# Altium integrated library Altera Arria GX.IntLib: 44 symbols (part 13 of 23)
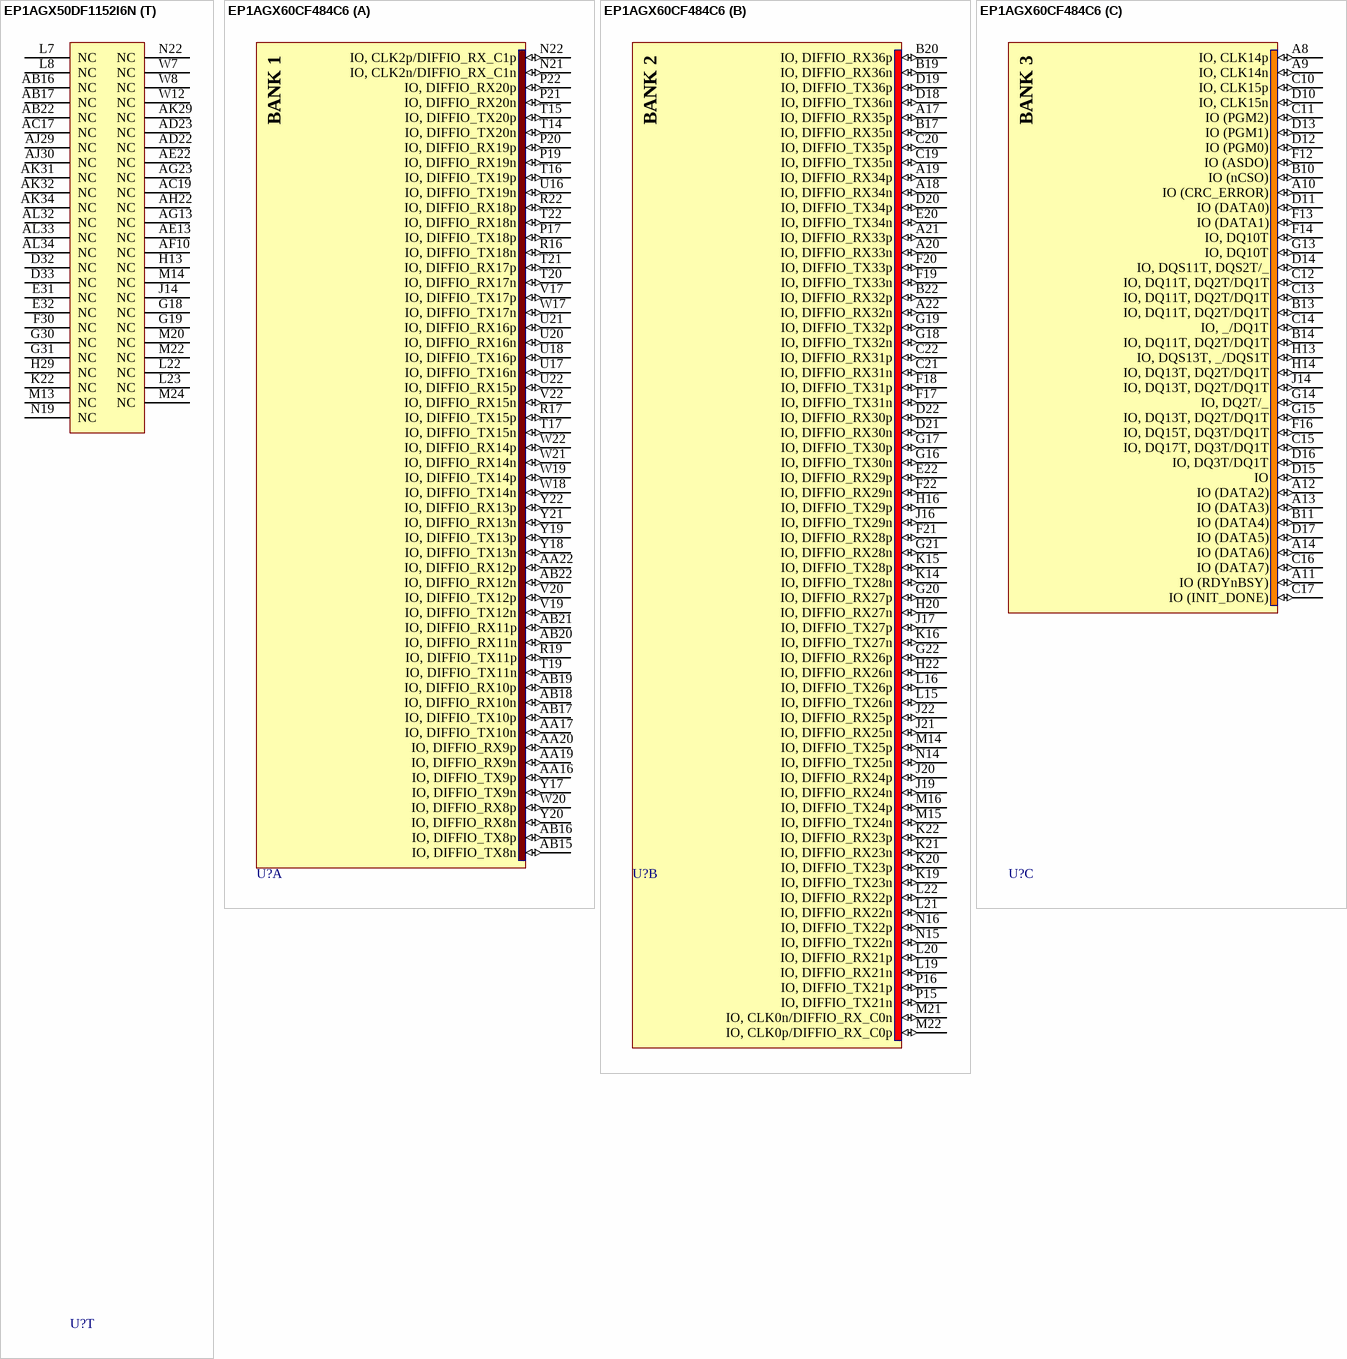
[diagram p152: symbols EP1AGX50DF1152I6N to EP1AGX60CF484C6]

## EP1AGX50DF1152I6N
designator U?
Arria GX Family FPGA, 563 I/O Pins, 8 PLLs, 1152-Pin FPGA, Speed Grade 6, Industrial Grade, Pb-Free; Note: DQS signal pins named according to DQ bus modes.  "/" separates each mode. ie. Mode x8/x9, x16/x18 and x36.; DatasheetVersion: ver1.3, May-2008; PackageVersion: ver15.1, May-2008; PackageReference: FBGA1152; PackageDescription: 1152-Ball FineLine Ball Grid Array (FBGA1152) - Flip Chip; Code_JEDEC: MS-034-AAR-1; ComponentLink1Description: Manufacturer URL; ComponentLink1URL: http://www.altera.com/; ComponentLink2Description: Datasheet; ComponentLink2URL: http://www.altera.com/literature/hb/agx/arriagx_handbook.pdf; ComponentLink3Description: Package Specification; ComponentLink3URL: http://www.altera.com/literature/ds/dspkg.pdf
footprint FBGA1152 (BGA, 1152-Leads, Body 35x35mm, Pitch 1mm)
part A pins: AA23 IO, DIFFIO_TX15p (io), AA25 IO, DIFFIO_TX14n (io), AA26 IO, DIFFIO_TX14p (io), AA28 IO, DIFFIO_TX16n (io), AA29 IO, DIFFIO_TX16p (io), AA31 IO, DIFFIO_RX16n (io), AA32 IO, DIFFIO_RX16p (io), AA34 IO, DIFFIO_RX13p (io), AB23 IO, DIFFIO_TX15n (io), AB24 IO, DIFFIO_TX12p (io), AB25 IO, DIFFIO_TX11n (io), AB26 IO, DIFFIO_TX11p (io), AB27 IO, DIFFIO_TX10n (io), AB28 IO, DIFFIO_TX13n (io), AB29 IO, DIFFIO_TX13p (io), AB30 IO, DIFFIO_RX15n (io), AB31 IO, DIFFIO_RX15p (io), AB32 IO, DIFFIO_RX14n (io), AB33 IO, DIFFIO_RX14p (io), AB34 IO, DIFFIO_RX13n (io), AC24 IO, DIFFIO_TX12n (io), AC27 IO, DIFFIO_TX10p (io), AC28 IO, DIFFIO_TX8n (io), AC29 IO, DIFFIO_TX8p (io), AC31 IO, DIFFIO_RX12n (io), AC32 IO, DIFFIO_RX12p (io), AC33 IO, DIFFIO_RX11n (io), AC34 IO, DIFFIO_RX11p (io), AD25 IO, DIFFIO_TX9n (io), AD26 IO, DIFFIO_TX9p (io), AD28 IO, DIFFIO_TX7n (io), AD29 IO, DIFFIO_TX7p (io), AD31 IO, DIFFIO_RX10n (io), AD32 IO, DIFFIO_RX10p (io), AD34 IO, DIFFIO_RX8p (io), AE27 IO, DIFFIO_TX5n (io), AE28 IO, DIFFIO_TX5p (io), AE29 IO, DIFFIO_TX6n (io), AE30 IO, DIFFIO_TX6p (io), AE32 IO, DIFFIO_RX9n (io), AE33 IO, DIFFIO_RX9p (io), AE34 IO, DIFFIO_RX8n (io), AF27 IO, DIFFIO_TX3n (io), AF28 IO, DIFFIO_TX3p (io), AF29 IO, DIFFIO_TX4n (io), AF30 IO, DIFFIO_TX4p (io), AF31 IO, DIFFIO_RX7n (io), AF32 IO, DIFFIO_RX7p (io), AF33 IO, DIFFIO_RX6n (io), AF34 IO, DIFFIO_RX6p (io), AG28 IO, DIFFIO_TX2n (io), AG29 IO, DIFFIO_TX2p (io), AG31 IO, DIFFIO_RX5n (io), AG32 IO, DIFFIO_RX5p (io), AG34 IO, DIFFIO_RX4p (io), AH28 IO, DIFFIO_TX0n (io), AH29 IO, DIFFIO_TX0p (io), AH30 IO, DIFFIO_TX1n (io), AH31 IO, DIFFIO_TX1p (io), AH32 IO, DIFFIO_RX3n (io), AH33 IO, DIFFIO_RX3p (io), AH34 IO, DIFFIO_RX4n (io), AJ31 IO, DIFFIO_RX1n (io), AJ32 IO, DIFFIO_RX1p (io), AJ33 IO, DIFFIO_RX2n (io), AJ34 IO, DIFFIO_RX2p (io), V23 IO, DIFFIO_TX20p (io), V34 IO, CLK2n/DIFFIO_RX_C1n (io), W23 IO, DIFFIO_TX20n (io), W28 IO, DIFFIO_TX18p (io), W30 IO, DIFFIO_RX20n (io), W31 IO, DIFFIO_RX20p (io), W32 IO, DIFFIO_RX19n (io), W33 IO, DIFFIO_RX19p (io), W34 IO, CLK2p/DIFFIO_RX_C1p (io), Y23 IO, DIFFIO_TX19n (io), Y24 IO, DIFFIO_TX19p (io), Y27 IO, DIFFIO_TX17n (io), Y28 IO, DIFFIO_TX17p (io), Y29 IO, DIFFIO_TX18n (io), Y31 IO, DIFFIO_RX18n (io), Y32 IO, DIFFIO_RX18p (io), Y33 IO, DIFFIO_RX17n (io), Y34 IO, DIFFIO_RX17p (io)
part B pins: D34 IO, DIFFIO_RX40n (io), E34 IO, DIFFIO_RX40p (io), F31 IO, DIFFIO_RX39n (io), F32 IO, DIFFIO_RX39p (io), F33 IO, DIFFIO_RX38n (io), F34 IO, DIFFIO_RX38p (io), G32 IO, DIFFIO_RX37n (io), G33 IO, DIFFIO_RX37p (io), G34 IO, DIFFIO_RX35p (io), H31 IO, DIFFIO_RX36n (io), H32 IO, DIFFIO_RX36p (io), H34 IO, DIFFIO_RX35n (io), J28 IO, DIFFIO_TX41p (io), J29 IO, DIFFIO_TX40n (io), J30 IO, DIFFIO_TX40p (io), J31 IO, DIFFIO_RX34n (io), J32 IO, DIFFIO_RX34p (io), J33 IO, DIFFIO_RX33n (io), J34 IO, DIFFIO_RX33p (io), K27 IO, DIFFIO_TX41n (io), K28 IO, DIFFIO_TX36p (io), K29 IO, DIFFIO_TX39n (io), K30 IO, DIFFIO_TX39p (io), K32 IO, DIFFIO_RX32n (io), K33 IO, DIFFIO_RX32p (io), K34 IO, DIFFIO_RX30n (io), L25 IO, DIFFIO_TX38n (io), L26 IO, DIFFIO_TX38p (io), L28 IO, DIFFIO_TX36n (io), L29 IO, DIFFIO_TX35p (io), L31 IO, DIFFIO_RX31n (io), L32 IO, DIFFIO_RX31p (io), L34 IO, DIFFIO_RX30p (io), M25 IO, DIFFIO_TX37n (io), M26 IO, DIFFIO_TX37p (io), M27 IO, DIFFIO_TX34n (io), M28 IO, DIFFIO_TX34p (io), M29 IO, DIFFIO_TX35n (io), M31 IO, DIFFIO_RX29n (io), M32 IO, DIFFIO_RX29p (io), M33 IO, DIFFIO_RX28n (io), M34 IO, DIFFIO_RX28p (io), N23 IO, DIFFIO_TX31p (io), N24 IO, DIFFIO_TX32n (io), N25 IO, DIFFIO_TX32p (io), N26 IO, DIFFIO_TX33n (io), N27 IO, DIFFIO_TX33p (io), N28 IO, DIFFIO_TX30n (io), N29 IO, DIFFIO_TX30p (io), N30 IO, DIFFIO_RX27n (io), N31 IO, DIFFIO_RX27p (io), N32 IO, DIFFIO_RX26n (io), N33 IO, DIFFIO_RX26p (io), N34 IO, DIFFIO_RX24p (io), P23 IO, DIFFIO_TX31n (io), P28 IO, DIFFIO_TX29n (io), P29 IO, DIFFIO_TX29p (io), P31 IO, DIFFIO_RX25n (io), P32 IO, DIFFIO_RX25p (io), P34 IO, DIFFIO_RX24n (io), R23 IO, DIFFIO_TX27p (io), R28 IO, DIFFIO_TX28n (io), R29 IO, DIFFIO_TX28p (io), R31 IO, DIFFIO_RX23n (io), R32 IO, DIFFIO_RX23p (io), R33 IO, DIFFIO_RX22n (io), R34 IO, DIFFIO_RX22p (io), T23 IO, DIFFIO_TX27n (io), T28 IO, DIFFIO_TX26n (io), T29 IO, DIFFIO_TX26p (io), T31 IO, DIFFIO_RX21n (io), T32 IO, DIFFIO_RX21p (io), T34 IO, CLK0n/DIFFIO_RX_C0n (io), U23 IO, DIFFIO_TX25n (io), U24 IO, DIFFIO_TX25p (io), U27 IO, DIFFIO_TX21p (io), U28 IO, DIFFIO_TX23n (io), U29 IO, DIFFIO_TX23p (io), U30 IO, DIFFIO_TX24n (io), U31 IO, DIFFIO_TX24p (io), U34 IO, CLK0p/DIFFIO_RX_C0p (io), V28 IO, DIFFIO_TX21n (io), V29 IO, DIFFIO_TX22n (io), W29 IO, DIFFIO_TX22p (io)
part C pins: A21 IO, DQ10T, DQ5T/DQ2T/DQ1T (io), A22 IO, DQ11T, DQ5T/DQ2T/DQ1T (io), A23 IO, DQ12T, DQ6T/DQ2T/DQ1T (io), A24 IO, DQ13T, DQ6T/DQ2T/DQ1T (io), A25 IO, DQ13T, DQ6T/DQ2T/DQ1T (io), A26 IO, DQ14T, DQ7T/DQ3T/DQ1T (io), A27 IO, DQ15T, DQ7T/DQ3T/DQ1T (io), A28 IO, DQ15T, DQ7T/DQ3T/DQ1T (io), A29 IO, DQ16T, DQ8T/DQ3T/DQ1T (io), A30 IO, DQ17T, DQ8T/DQ3T/DQ1T (io), A31 IO, DQS17T (io), A32 IO, DQ17T, DQ8T/DQ3T/DQ1T (io), B19 IO, CLK14p (io), B22 IO, DQ11T, DQ5T/DQ2T/DQ1T (io), B23 IO, DQ12T, DQ6T/DQ2T/DQ1T (io), B25 IO, DQS13T, _/_/DQS1T (io), B26 IO, DQ14T, DQ7T/DQ3T/DQ1T (io), B28 IO, DQS15T, _/DQS3T/_ (io), B29 IO, DQ16T, DQ8T/DQ3T/DQ1T (io), B31 IO, DQ8T/DQ3T/DQ1T (io), B32 IO, DQ17T, DQ8T/DQ3T/_ (io), C19 IO, CLK14n (io), C21 IO, DQ10T, DQ5T/DQ2T/DQ1T (io), C22 IO, DQS11T, _/DQS2T/_ (io), C23 IO, DQS12T, DQS6T/_/_ (io), C24 IO, _/DQ2T/DQ1T (io), C25 IO, DQ6T/DQ2T/_ (io), C26 IO, DQS14T, DQS7T/_/_ (io), C27 IO, DQ15T, DQ7T/DQ3T/DQ1T (io), C28 IO, DQ7T/_/DQ1T (io), C29 IO, DQS16T, DQS8T/_/_ (io), C30 IO, DQ17T, DQ8T/_/_ (io), D19 IO, CLK15p (io), D21 IO, _/DQ2T/DQ1T (io), D22 IO, DQS10T, DQS5T/_/_ (io), D23 IO, DQ5T/_/DQ1T (io), D24 IO, DQ12T, DQ6T/DQ2T/DQ1T (io), D25 IO, DQ13T, DQ6T/_/_ (io), D26 IO, _/DQ3T/DQ1T (io), D27 IO, DQ15T, DQ7T/DQ3T/DQ1T (io), D28 IO, DQ16T, DQ8T/DQ3T/DQ1T (io), D29 IO, _/DQ3T/DQ1T (io), E19 IO, CLK15n (io), E23 IO, DQ11T, DQ5T/DQ2T/DQ1T (io), E26 IO, DQ14T, DQ7T/DQ3T/DQ1T (io), E29 IO, DQ16T, DQ8T/DQ3T/DQ1T (io), F21 IO, DQ10T, DQ5T/DQ2T/DQ1T (io), F22 IO, DQ10T, DQ5T/DQ2T/DQ1T (io), F23 IO, DQ11T, DQ5T/DQ2T/DQ1T (io), F24 IO, DQ12T, DQ6T/DQ2T/DQ1T (io), F25 IO, DQ13T, DQ6T/DQ2T/DQ1T (io), F26 IO, DQ14T, DQ7T/DQ3T/DQ1T (io), F27 IO (DATA3) (io), F28 IO (RDYnBSY) (io), F29 IO (io), G20 IO (PGM2) (io), G21 IO (nCSO) (io), G22 IO (CRC_ERROR) (io), G23 IO (io), G24 IO (io), G25 IO (DATA2) (io), G26 IO (DATA6) (io), G27 IO (DATA5) (io), G28 IO (INIT_DONE) (io), G29 IO (io), H20 IO (PGM1) (io), H22 IO (PGM0) (io), H23 IO (io), H25 IO (DATA4) (io), H26 IO (DATA7) (io), H28 IO (io), J20 IO (DATA0) (io), J22 IO (DATA1) (io), J23 IO (io), J24 IO (io), J27 IO (io), K23 IO (io), K24 IO (io), M21 IO (io), M23 IO (io), N21 IO (ASDO) (io)
part D pins: A7 IO, DQ0T, DQ0T/_/_ (io), A8 IO, DQ1T, DQ0T/_/_ (io), A9 IO, DQ2T, DQ1T/DQ0T/DQ0T (io), A10 IO, DQ3T, DQ1T/DQ0T/DQ0T (io), A11 IO, DQ4T, DQ2T/DQ0T/DQ0T (io), A12 IO, DQ5T, DQ2T/_/_ (io), A13 IO, DQ6T, DQ3T/DQ1T/DQ0T (io), A14 IO, DQ7T, DQ3T/DQ1T/DQ0T (io), A15 IO, DQ8T, DQ4T/DQ1T/DQ0T (io), A16 IO, DQ9T, DQ4T/DQ1T/DQ0T (io), A18 IO, CLK12p (io), A19 IO, CLK12n (io), B8 IO, DQ1T, DQ0T/_/_ (io), B10 IO, DQ3T, DQ1T/DQ0T/DQ0T (io), B11 IO, DQ4T, DQ2T/DQ0T/DQ0T (io), B13 IO, DQ6T, DQ3T/DQ1T/DQ0T (io), B14 IO, DQ7T, DQ3T/DQ1T/DQ0T (io), B16 IO, DQ9T, DQ4T/DQ1T/DQ0T (io), C7 IO (io), C8 IO, DQ0T/_/_ (io), C9 IO, _/DQ0T/DQ0T (io), C10 IO, DQ1T/_/DQ0T (io), C11 IO, _/DQ0T/DQ0T (io), C12 IO, DQ2T/DQ0T/_ (io), C13 IO, _/DQ1T/DQ0T (io), C14 IO, DQ3T/_/DQ0T (io), C15 IO, _/DQ1T/DQ0T (io), C16 IO, DQS9T (io), C18 IO, CLK13p (io), D7 IO, DQS0T, DQS0T/_/_ (io), D8 IO, DQS1T (io), D9 IO, DQS2T, DQS1T/_/_ (io), D10 IO, DQS3T, _/DQS0T/_ (io), D11 IO, DQS4T, DQS2T/_/_ (io), D12 IO, DQS5T, _/_/DQS0T (io), D13 IO, DQS6T, DQS3T/_/_ (io), D14 IO, DQS7T, _/DQS1T/_ (io), D15 IO, DQS8T, DQS4T/_/_ (io), D16 IO, DQ4T/DQ1T/DQ0T (io), D18 IO, CLK13n (io), E8 IO, DQ1T, DQ0T/_/_ (io), E11 IO, DQ4T, DQ2T/DQ0T/DQ0T (io), E14 IO, DQ7T, DQ3T/DQ1T/DQ0T (io), F7 IO, DQ0T, DQ0T/_/_ (io), F8 IO, DQ1T, DQ0T/_/_ (io), F9 IO, DQ2T, DQ1T/DQ0T/DQ0T (io), F10 IO, DQ3T, DQ1T/DQ0T/DQ0T (io), F11 IO, DQ4T, DQ2T/DQ0T/DQ0T (io), F12 IO, DQ5T, DQ2T/DQ0T/DQ0T (io), F13 IO, DQ6T, DQ3T/DQ1T/DQ0T (io), F14 IO, DQ7T, DQ3T/DQ1T/DQ0T (io), F15 IO, DQ8T, DQ4T/DQ1T/DQ0T (io), F16 IO, DQ9T, DQ4T/DQ1T/_ (io), F18 IO (io), F19 IO (io), G7 IO, DQ0T, DQ0T/_/_ (io), G8 IO, DQ2T, DQ1T/DQ0T/DQ0T (io), G9 IO, DQ2T, DQ1T/DQ0T/DQ0T (io), G10 IO, DQ3T, DQ1T/DQ0T/DQ0T (io), G11 IO, DQ5T, DQ2T/DQ0T/DQ0T (io), G12 IO, DQ5T, DQ2T/DQ0T/DQ0T (io), G13 IO, DQ6T, DQ3T/DQ1T/DQ0T (io), G14 IO, DQ8T, DQ4T/DQ1T/DQ0T (io), G15 IO, DQ8T, DQ4T/DQ1T/DQ0T (io), G16 IO, DQ9T, DQ4T/_/_ (io), H8 IO, DQ0T, DQ0T/_/_ (io), H14 IO (io), J11 IO, RUP4 (io), J13 IO (io), K11 IO, RDN4 (io), K13 IO (io), K14 IO (io), L13 IO (io), L14 IO (io), M15 IO (io), M16 IO (io), M17 IO (io), M18 IO (io), M19 IO (io), N17 IO (io), N18 IO (io)
part E pins: AC13 IO (io), AC14 IO (io), AC15 IO (io), AC16 IO (io), AD13 IO (io), AD14 IO (io), AE9 IO, RUP7 (io), AE10 IO, RDN7 (io), AE11 IO (io), AE14 IO (io), AF11 IO (io), AF13 IO (io), AF14 IO (io), AG8 IO, DQ0B, DQ0B/_/_ (io), AG10 IO (io), AG11 IO (io), AG14 IO (io), AH7 IO, DQ0B, DQ0B/_/_ (io), AH8 IO, DQ2B, DQ1B/DQ0B/DQ0B (io), AH9 IO, DQ2B, DQ1B/DQ0B/DQ0B (io), AH10 IO, DQ3B, DQ1B/DQ0B/DQ0B (io), AH11 IO, DQ5B, DQ2B/DQ0B/DQ0B (io), AH12 IO, DQ5B, DQ2B/DQ0B/DQ0B (io), AH13 IO, DQ6B, DQ3B/DQ1B/DQ0B (io), AH14 IO (io), AH15 IO, DQ8B, DQ4B/DQ1B/DQ0B (io), AH16 IO, DQ8B, DQ4B/DQ1B/DQ0B (io), AH17 IO (io), AJ7 IO, DQ0B, DQ0B/_/_ (io), AJ8 IO, DQ1B, DQ0B/_/_ (io), AJ9 IO, DQ2B, DQ1B/DQ0B/DQ0B (io), AJ10 IO, DQ3B, DQ1B/DQ0B/DQ0B (io), AJ11 IO, DQ4B, DQ2B/DQ0B/DQ0B (io), AJ12 IO, DQ5B, DQ2B/DQ0B/DQ0B (io), AJ13 IO, DQ6B, DQ3B/DQ1B/DQ0B (io), AJ14 IO, DQ7B, DQ3B/DQ1B/DQ0B (io), AJ15 IO, DQ8B, DQ4B/DQ1B/DQ0B (io), AJ16 IO, DQ9B, DQ4B/_/_ (io), AJ17 IO (io), AK8 IO, DQ1B, DQ0B/_/_ (io), AK11 IO, DQ4B, DQ2B/DQ0B/DQ0B (io), AK14 IO, DQ7B, DQ3B/DQ1B/DQ0B (io), AK16 IO, DQ9B, DQ4B/DQ1B/_ (io), AK19 IO, CLK7n (io), AL7 IO, DQS0B, DQS0B/_/_ (io), AL8 IO, DQS1B (io), AL9 IO, DQS2B, DQS1B/_/_ (io), AL10 IO, DQS3B, _/DQS0B/_ (io), AL11 IO, DQS4B, DQS2B/_/_ (io), AL12 IO, DQS5B, _/_/DQS0B (io), AL13 IO, DQS6B, DQS3B/_/_ (io), AL14 IO, DQS7B, _/DQS1B/_ (io), AL15 IO, DQS8B, DQS4B/_/_ (io), AL16 IO, DQ4B/DQ1B/DQ0B (io), AL19 IO, CLK7p (io), AM7 IO (io), AM8 IO, DQ0B/_/_ (io), AM9 IO, _/DQ0B/DQ0B (io), AM10 IO, DQ1B/_/DQ0B (io), AM11 IO, _/DQ0B/DQ0B (io), AM12 IO, DQ2B/DQ0B/_ (io), AM13 IO, _/DQ1B/DQ0B (io), AM14 IO, DQ3B/_/DQ0B (io), AM15 IO, _/DQ1B/DQ0B (io), AM16 IO, DQS9B (io), AN8 IO, DQ1B, DQ0B/_/_ (io), AN10 IO, DQ3B, DQ1B/DQ0B/DQ0B (io), AN11 IO, DQ4B, DQ2B/DQ0B/DQ0B (io), AN13 IO, DQ6B, DQ3B/DQ1B/DQ0B (io), AN14 IO, DQ7B, DQ3B/DQ1B/DQ0B (io), AN16 IO, DQ9B, DQ4B/DQ1B/DQ0B (io), AP7 IO, DQ0B, DQ0B/_/_ (io), AP8 IO, DQ1B, DQ0B/_/_ (io), AP9 IO, DQ2B, DQ1B/DQ0B/DQ0B (io), AP10 IO, DQ3B, DQ1B/DQ0B/DQ0B (io), AP11 IO, DQ4B, DQ2B/DQ0B/DQ0B (io), AP12 IO, DQ5B, DQ2B/_/_ (io), AP13 IO, DQ6B, DQ3B/DQ1B/DQ0B (io), AP14 IO, DQ7B, DQ3B/DQ1B/DQ0B (io), AP15 IO, DQ8B, DQ4B/DQ1B/DQ0B (io), AP16 IO, DQ9B, DQ4B/DQ1B/DQ0B (io), AP18 IO, CLK6p (io), AP19 IO, CLK6n (io)
part F pins: AB18 IO (io), AB20 IO (io), AB21 IO (io), AC18 IO (io), AC20 IO (io), AC21 IO (io), AC22 IO (io), AC23 IO (io), AE23 IO (io), AF22 IO (io), AF23 IO (io), AG20 IO (DEV_OE) (io), AG22 IO (io), AG25 IO (nRS) (io), AG26 IO (nWS) (io), AH18 IO (RUnLU) (io), AH19 IO, CLK5n (io), AH20 IO (DEV_CLRn) (io), AH21 IO (io), AH23 IO (io), AH24 IO (io), AH25 IO (io), AH26 IO (CLKUSR) (io), AH27 IO (CS) (io), AJ18 IO (nCS) (io), AJ19 IO, CLK5p (io), AJ21 IO, DQ10B, DQ5B/DQ2B/DQ1B (io), AJ22 IO, DQ10B, DQ5B/DQ2B/DQ1B (io), AJ23 IO, DQ12B, DQ6B/DQ2B/DQ1B (io), AJ24 IO, DQ13B, DQ6B/_/_ (io), AJ25 IO, DQ13B, DQ6B/DQ2B/DQ1B (io), AJ26 IO, DQ14B, DQ7B/DQ3B/DQ1B (io), AJ27 IO, DQ15B, DQ7B/DQ3B/DQ1B (io), AJ28 IO, DQ15B, DQ7B/DQ3B/DQ1B (io), AK23 IO, DQ12B, DQ6B/DQ2B/DQ1B (io), AK26 IO, DQ14B, DQ7B/DQ3B/DQ1B (io), AL21 IO, DQS10B, DQS5B/_/_ (io), AL22 IO, _/DQ2B/DQ1B (io), AL23 IO, DQS12B, DQS6B/_/_ (io), AL24 IO, _/DQ2B/DQ1B (io), AL25 IO, DQ6B/DQ2B/_ (io), AL26 IO, _/DQ3B/DQ1B (io), AL27 IO, DQS15B, _/DQS3B/_ (io), AL28 IO, DQ7B/_/DQ1B (io), AL29 IO (io), AM19 IO, CLK4n (io), AM21 IO, DQ10B, DQ5B/DQ2B/DQ1B (io), AM22 IO, DQ11B, DQ5B/DQ2B/DQ1B (io), AM23 IO, DQ11B, DQ5B/DQ2B/DQ1B (io), AM24 IO, DQ12B, DQ6B/DQ2B/DQ1B (io), AM25 IO, DQS13B, _/_/DQS1B (io), AM26 IO, DQS14B, DQS7B/_/_ (io), AM27 IO, DQ15B, DQ7B/DQ3B/DQ1B (io), AM28 IO, DQ16B, DQ8B/DQ3B/DQ1B (io), AM29 IO, DQ16B, DQ8B/DQ3B/DQ1B (io), AM30 IO, DQ17B, DQ8B/_/_ (io), AN19 IO, CLK4p (io), AN22 IO, DQS11B, _/DQS2B/_ (io), AN23 IO, DQ5B/_/DQ1B (io), AN25 IO, DQ13B, DQ6B/DQ2B/DQ1B (io), AN26 IO, DQ14B, DQ7B/DQ3B/DQ1B (io), AN28 IO, DQS16B, DQS8B/_/_ (io), AN29 IO, _/DQ3B/DQ1B (io), AN31 IO, DQ8B/DQ3B/DQ1B (io), AN32 IO, DQ17B, DQ8B/DQ3B/_ (io), AP21 IO, DQ10B, DQ5B/DQ2B/DQ1B (io), AP22 IO, DQ11B, DQ5B/DQ2B/DQ1B (io), AP23 IO, DQ11B, DQ5B/DQ2B/DQ1B (io), AP24 IO, DQ12B, DQ6B/DQ2B/DQ1B (io), AP25 IO, DQ13B, DQ6B/DQ2B/DQ1B (io), AP26 IO, DQ14B, DQ7B/DQ3B/DQ1B (io), AP27 IO, DQ15B, DQ7B/DQ3B/DQ1B (io), AP28 IO, DQ16B, DQ8B/DQ3B/DQ1B (io), AP29 IO, DQ16B, DQ8B/DQ3B/DQ1B (io), AP30 IO, DQ17B, DQ8B/DQ3B/DQ1B (io), AP31 IO, DQS17B (io), AP32 IO, DQ17B, DQ8B/DQ3B/DQ1B (io)
part G pins: A17 IO, PLL5_OUT0p (io), B17 IO, PLL5_OUT0n (io), C17 IO, PLL5_OUT1p (io), D17 IO, PLL5_OUT1n (io), E17 IO, PLL5_FBp/OUT2p (io), F17 IO, PLL5_FBn/OUT2n (io)
part H pins: AL17 IO, PLL6_FBn/OUT2n (io), AL18 IO, PLL6_OUT1n (io), AM17 IO, PLL6_FBp/OUT2p (io), AM18 IO, PLL6_OUT1p (io), AN17 IO, PLL6_OUT0n (io), AP17 IO, PLL6_OUT0p (io)
part I pins: A20 IO, PLL11_OUT0p (io), B20 IO, PLL11_OUT0n (io), C20 IO, PLL11_OUT1p (io), D20 IO, PLL11_OUT1n (io), E20 IO, PLL11_FBp/OUT2p (io), F20 IO, PLL11_FBn/OUT2n (io)
part J pins: AJ20 IO, PLL12_FBn/OUT2n (io), AK20 IO, PLL12_FBp/OUT2p (io), AL20 IO, PLL12_OUT1n (io), AM20 IO, PLL12_OUT1p (io), AN20 IO, PLL12_OUT0n (io), AP20 IO, PLL12_OUT0p (io)
part K pins: A4 GXB_TX1p (out), A5 GXB_TX1n (out), C1 GXB_RX1p (in), C2 GXB_RX1n (in), C4 GXB_TX0p (out), C5 GXB_TX0n (out), E1 GXB_RX0p (in), E2 GXB_RX0n (in), E4 REFCLK1_B13p (in), E5 REFCLK1_B13n (in), G1 REFCLK0_B13p (in), G2 REFCLK0_B13n (in), G4 RREFB13 (in), J1 GXB_RX2p (in), J2 GXB_RX2n (in), J4 GXB_TX2p (out), J5 GXB_TX2n (out), L1 GXB_RX3p (in), L2 GXB_RX3n (in), L4 GXB_TX3p (out), L5 GXB_TX3n (out)
part L pins: AB1 GXB_RX7p (in), AB2 GXB_RX7n (in), AB4 GXB_TX7p (out), AB5 GXB_TX7n (out), N1 GXB_RX5p (in), N2 GXB_RX5n (in), N4 GXB_TX5p (out), N5 GXB_TX5n (out), R1 GXB_RX4p (in), R2 GXB_RX4n (in), R4 GXB_TX4p (out), R5 GXB_TX4n (out), U6 REFCLK1_B14p (in), U7 REFCLK1_B14n (in), V1 REFCLK0_B14p (in), V2 REFCLK0_B14n (in), V4 RREFB14 (in), Y1 GXB_RX6p (in), Y2 GXB_RX6n (in), Y4 GXB_TX6p (out), Y5 GXB_TX6n (out)
part M pins: AM33 FPLL8CLKn, INPUT (in), AM34 FPLL8CLKp, INPUT (in), C33 FPLL7CLKn, INPUT (in), C34 FPLL7CLKp, INPUT (in), U32 CLK1n, INPUT (in), U33 CLK1p, INPUT (in), V31 CLK3n, INPUT (in), V32 CLK3p, INPUT (in)
part N pins: AC30 VREFB1N1 (in), AE31 VREFB1N0 (in), AK10 VREFB7N2 (in), AK13 VREFB7N1 (in), AK17 VREFB7N0 (in), AK22 VREFB8N2 (in), AK25 VREFB8N1 (in), AK28 VREFB8N0 (in), E10 VREFB4N0 (in), E13 VREFB4N1 (in), E16 VREFB4N2 (in), E22 VREFB3N0 (in), E25 VREFB3N1 (in), E28 VREFB3N2 (in), K31 VREFB2N2 (in), M30 VREFB2N1 (in), R30 VREFB2N0 (in), Y30 VREFB1N2 (in)
part O pins: AE7 nIO_PULLUP (in), AE8 PORSEL (in), AE24 TCK (in), AF8 PLL_ENA (in), AF9 nCEO (out), AF24 VCCSEL (in), AL30 nCONFIG (in), AL31 TDI (in), AM31 TRST (in), AM32 TMS (in), C31 CONF_DONE (io), C32 DCLK (io), D30 nCE (in), D31 nSTATUS (io), H10 TDO (out), H11 MSEL3 (in), J7 TEMPDIODEn (in), J8 TEMPDIODEp (in), J9 MSEL1 (in), J10 MSEL2 (in), K10 MSEL0 (in)
part P pins: AA14 VCCINT (power), AA16 VCCINT (power), AA18 VCCINT (power), AA20 VCCINT (power), AA22 VCCINT (power), AC25 VCCIO1 (power), AC26 VCCIO1 (power), AD16 VCCPD7 (power), AD17 VCCPD7 (power), AD19 VCCPD8 (power), AD20 VCCPD8 (power), AE12 VCCIO7 (power), AE15 VCCIO7 (power), AE19 VCCIO8 (power), AE21 VCCIO8 (power), AF12 VCCIO7 (power), AF15 VCCIO7 (power), AF21 VCCIO8 (power), AG19 VCCIO8 (power), H19 VCCIO3 (power), J12 VCCIO4 (power), J15 VCCIO4 (power), J21 VCCIO3 (power), K12 VCCIO4 (power), K15 VCCIO4 (power), K19 VCCIO3 (power), K21 VCCIO3 (power), L16 VCCPD4 (power), L17 VCCPD4 (power), L19 VCCPD3 (power), L20 VCCPD3 (power), P15 VCCINT (power), P17 VCCINT (power), P19 VCCINT (power), P21 VCCINT (power), P25 VCCIO2 (power), P26 VCCIO2 (power), R14 VCCINT (power), R16 VCCINT (power), R18 VCCINT (power), R20 VCCINT (power), R22 VCCINT (power), R24 VCCPD2 (power), R25 VCCPD2 (power), T13 VCCINT (power), T15 VCCINT (power), T17 VCCINT (power), T19 VCCINT (power), T21 VCCINT (power), U14 VCCINT (power), U16 VCCINT (power), U18 VCCINT (power), U20 VCCINT (power), U22 VCCINT (power), U25 VCCIO2 (power), U26 VCCIO2 (power), V13 VCCINT (power), V15 VCCINT (power), V17 VCCINT (power), V19 VCCINT (power), V21 VCCINT (power), W14 VCCINT (power), W16 VCCINT (power), W18 VCCINT (power), W20 VCCINT (power), W22 VCCINT (power), W24 VCCPD1 (power), W25 VCCPD1 (power), Y15 VCCINT (power), Y17 VCCINT (power), Y19 VCCINT (power), Y21 VCCINT (power), Y25 VCCIO1 (power), Y26 VCCIO1 (power)
part Q pins: AA8 VCCA (power), AA9 VCCR (power), AA10 VCCT_B14 (power), AA11 VCCH_B14 (power), AA12 VCCP (power), AB8 VCCL_B14 (power), AC9 VCCA (power), AC11 VCCA (power), L9 VCCA (power), M8 VCCA (power), M9 VCCR (power), M10 VCCT_B13 (power), M11 VCCH_B13 (power), M12 VCCP (power), N8 VCCA (power), N9 VCCR (power), N10 VCCT_B13 (power), N11 VCCH_B13 (power), N12 VCCP (power), P8 VCCL_B13 (power), R9 VCCA (power), R11 VCCA (power), T8 VCCA (power), T9 VCCR (power), T10 VCCT_B14 (power), T11 VCCH_B14 (power), T12 VCCP (power), U8 VCCA (power), U9 VCCR (power), U10 VCCT_B14 (power), U11 VCCH_B14 (power), U12 VCCP (power), V8 VCCL_B14 (power), W9 VCCA (power), W11 VCCA (power), Y8 VCCA (power), Y9 VCCR (power), Y10 VCCT_B14 (power), Y11 VCCH_B14 (power), Y12 VCCP (power)
part R pins: AE16 VCCA_PLL6 (power), AE17 GNDA_PLL6 (power), AE18 VCCA_PLL12 (power), AE20 VCC_PLL12_OUT (power), AE25 VCCD_PLL8 (power), AE26 GNDA_PLL8 (power), AF16 VCCD_PLL6 (power), AF17 GNDA_PLL6 (power), AF18 GNDA_PLL12 (power), AF19 GNDA_PLL12 (power), AF20 VCCD_PLL12 (power), AF25 GNDA_PLL8 (power), AF26 VCCA_PLL8 (power), AG16 VCC_PLL6_OUT (power), H16 VCC_PLL5_OUT (power), H17 VCCD_PLL5 (power), J16 GNDA_PLL5 (power), J17 GNDA_PLL5 (power), J18 GNDA_PLL11 (power), J19 VCCD_PLL11 (power), J25 GNDA_PLL7 (power), J26 VCCA_PLL7 (power), K16 VCCA_PLL5 (power), K17 VCCA_PLL11 (power), K18 GNDA_PLL11 (power), K20 VCC_PLL11_OUT (power), K25 VCCD_PLL7 (power), K26 GNDA_PLL7 (power), R26 GNDA_PLL1 (power), R27 VCCD_PLL1 (power), T25 VCCA_PLL1 (power), T26 GNDA_PLL1 (power), V25 VCCA_PLL2 (power), V26 GNDA_PLL2 (power), W26 GNDA_PLL2 (power), W27 VCCD_PLL2 (power)
part S pins: A2 GND (power), A3 GND (power), A6 GND (power), A33 GND (power), AA1 GND (power), AA2 GND (power), AA3 GND (power), AA4 GND (power), AA5 GND (power), AA6 GND (power), AA7 GND (power), AA13 GND (power), AA15 GND (power), AA17 GND (power), AA19 GND (power), AA21 GND (power), AA24 GND (power), AA27 GND (power), AA30 GND (power), AA33 GND (power), AB3 GND (power), AB6 GND (power), AB7 GND (power), AB9 GND (power), AB10 GND (power), AB11 GND (power), AB12 GND (power), AB13 GND (power), AB14 GND (power), AB15 GND (power), AB19 GND (power), AC1 GND (power), AC2 GND (power), AC3 GND (power), AC4 GND (power), AC5 GND (power), AC6 GND (power), AC7 GND (power), AC8 GND (power), AC10 GND (power), AC12 GND (power), AD1 GND* (power), AD2 GND* (power), AD3 GND (power), AD4 GND* (power), AD5 GND* (power), AD6 GND (power), AD7 GND (power), AD8 GND (power), AD9 GND (power), AD10 GND (power), AD11 GND (power), AD12 GND (power), AD15 GND (power), AD18 GND (power), AD21 GND (power), AD24 GND (power), AD27 GND (power), AD30 GND (power), AD33 GND (power), AE1 GND (power), AE2 GND (power), AE3 GND (power), AE4 GND (power), AE5 GND (power), AE6 GND (power), AF1 GND* (power), AF2 GND* (power), AF3 GND (power), AF4 GND* (power), AF5 GND* (power), AF6 GND (power), AF7 GND (power), AG1 GND (power), AG2 GND (power), AG3 GND (power), AG4 GND (power), AG5 GND (power), AG6 GND (power), AG7 GND (power), AG9 GND (power), AG12 GND (power), AG15 GND (power), AG17 GND (power), AG18 GND (power), AG21 GND (power), AG24 GND (power), AG27 GND (power), AG30 GND (power), AG33 GND (power), AH1 GND* (power), AH2 GND* (power), AH3 GND (power), AH4 GND* (power), AH5 GND (power), AH6 GND (power), AJ1 GND (power), AJ2 GND (power), AJ3 GND (power), AJ4 GND (power), AJ5 GND (power), AJ6 GND (power), AK1 GND* (power), AK2 GND* (power), AK3 GND (power), AK4 GND* (power), AK5 GND* (power), AK6 GND (power), AK7 GND (power), AK9 GND (power), AK12 GND (power), AK15 GND (power), AK18 GND (power), AK21 GND (power), AK24 GND (power), AK27 GND (power), AK30 GND (power), AK33 GND (power), AL1 GND (power), AL2 GND (power), AL3 GND (power), AL4 GND (power), AL5 GND (power), AL6 GND (power), AM1 GND* (power), AM2 GND* (power), AM3 GND (power), AM4 GND* (power), AM5 GND* (power), AM6 GND (power), AN1 GND (power), AN2 GND (power), AN3 GND (power), AN4 GND (power), AN5 GND (power), AN6 GND (power), AN7 GND (power), AN9 GND (power), AN12 GND (power), AN15 GND (power), AN18 GND (power), AN21 GND (power), AN24 GND (power), AN27 GND (power), AN30 GND (power), AN33 GND (power), AN34 GND (power), AP2 GND (power), AP3 GND (power), AP4 GND* (power), AP5 GND* (power), AP6 GND (power), AP33 GND (power), B1 GND (power), B2 GND (power), B3 GND (power), B4 GND (power), B5 GND (power), B6 GND (power), B7 GND (power), B9 GND (power), B12 GND (power), B15 GND (power), B18 GND (power), B21 GND (power), B24 GND (power), B27 GND (power), B30 GND (power), B33 GND (power), B34 GND (power), C3 GND (power), C6 GND (power), D1 GND (power), D2 GND (power), D3 GND (power), D4 GND (power), D5 GND (power), D6 GND (power), E3 GND (power), E6 GND (power), E7 GND (power), E9 GND (power), E12 GND (power), E15 GND (power), E18 GND (power), E21 GND (power), E24 GND (power), E27 GND (power), E30 GND (power), E33 GND (power), F1 GND (power), F2 GND (power), F3 GND (power), F4 GND (power), F5 GND (power), F6 GND (power), G3 GND (power), G5 GND (power), G6 GND (power), G17 GND (power), H1 GND (power), H2 GND (power), H3 GND (power), H4 GND (power), H5 GND (power), H6 GND (power), H7 GND (power), H9 GND (power), H12 GND (power), H15 GND (power), H18 GND (power), H21 GND (power), H24 GND (power), H27 GND (power), H30 GND (power), H33 GND (power), J3 GND (power), J6 GND (power), K1 GND (power), K2 GND (power), K3 GND (power), K4 GND (power), K5 GND (power), K6 GND (power), K7 GND (power), K8 GND (power), K9 GND (power), L3 GND (power), L6 GND (power), L10 GND (power), L11 GND (power), L12 GND (power), L15 GND (power), L18 GND (power), L21 GND (power), L24 GND (power), L27 GND (power), L30 GND (power), L33 GND (power), M1 GND (power), M2 GND (power), M3 GND (power), M4 GND (power), M5 GND (power), M6 GND (power), M7 GND (power), N3 GND (power), N6 GND (power), N7 GND (power), N13 GND (power), N14 GND (power), N15 GND (power), N16 GND (power), N20 GND (power), P1 GND (power), P2 GND (power), P3 GND (power), P4 GND (power), P5 GND (power), P6 GND (power), P7 GND (power), P9 GND (power), P10 GND (power), P11 GND (power), P12 GND (power), P13 GND (power), P14 GND (power), P16 GND (power), P18 GND (power), P20 GND (power), P22 GND (power), P24 GND (power), P27 GND (power), P30 GND (power), P33 GND (power), R3 GND (power), R6 GND (power), R7 GND (power), R8 GND (power), R10 GND (power), R12 GND (power), R13 GND (power), R15 GND (power), R17 GND (power), R19 GND (power), R21 GND (power), T1 GND (power), T2 GND (power), T3 GND (power), T4 GND (power), T5 GND (power), T6 GND (power), T7 GND (power), T14 GND (power), T16 GND (power), T18 GND (power), T20 GND (power), T22 GND (power), T24 GND (power), T27 GND (power), T30 GND (power), T33 GND (power), U1 GND (power), U2 GND (power), U3 GND (power), U4 GND (power), U5 GND (power), U13 GND (power), U15 GND (power), U17 GND (power), U19 GND (power), U21 GND (power), V3 GND (power), V5 GND (power), V6 GND (power), V7 GND (power), V9 GND (power), V10 GND (power), V11 GND (power), V12 GND (power), V14 GND (power), V16 GND (power), V18 GND (power), V20 GND (power), V22 GND (power), V24 GND (power), V27 GND (power), V30 GND (power), V33 GND (power), W1 GND (power), W2 GND (power), W3 GND (power), W4 GND (power), W5 GND (power), W6 GND (power), W10 GND (power), W13 GND (power), W15 GND (power), W17 GND (power), W19 GND (power), W21 GND (power), Y3 GND (power), Y6 GND (power), Y7 GND (power), Y13 GND (power), Y14 GND (power), Y16 GND (power), Y18 GND (power), Y20 GND (power), Y22 GND (power)
part T pins: AB16 NC, AB17 NC, AB22 NC, AC17 NC, AC19 NC, AD22 NC, AD23 NC, AE13 NC, AE22 NC, AF10 NC, AG13 NC, AG23 NC, AH22 NC, AJ29 NC, AJ30 NC, AK29 NC, AK31 NC, AK32 NC, AK34 NC, AL32 NC, AL33 NC, AL34 NC, D32 NC, D33 NC, E31 NC, E32 NC, F30 NC, G18 NC, G19 NC, G30 NC, G31 NC, H13 NC, H29 NC, J14 NC, K22 NC, L7 NC, L8 NC, L22 NC, L23 NC, M13 NC, M14 NC, M20 NC, M22 NC, M24 NC, N19 NC, N22 NC, W7 NC, W8 NC, W12 NC
part A text: BANK 1
part B text: BANK 2
part C text: BANK 3
part D text: BANK 4
part E text: BANK 7
part F text: BANK 8
part G text: BANK 9
part H text: BANK 10
part I text: BANK 11
part J text: BANK 12
part K text: BANK 13
part L text: BANK 14

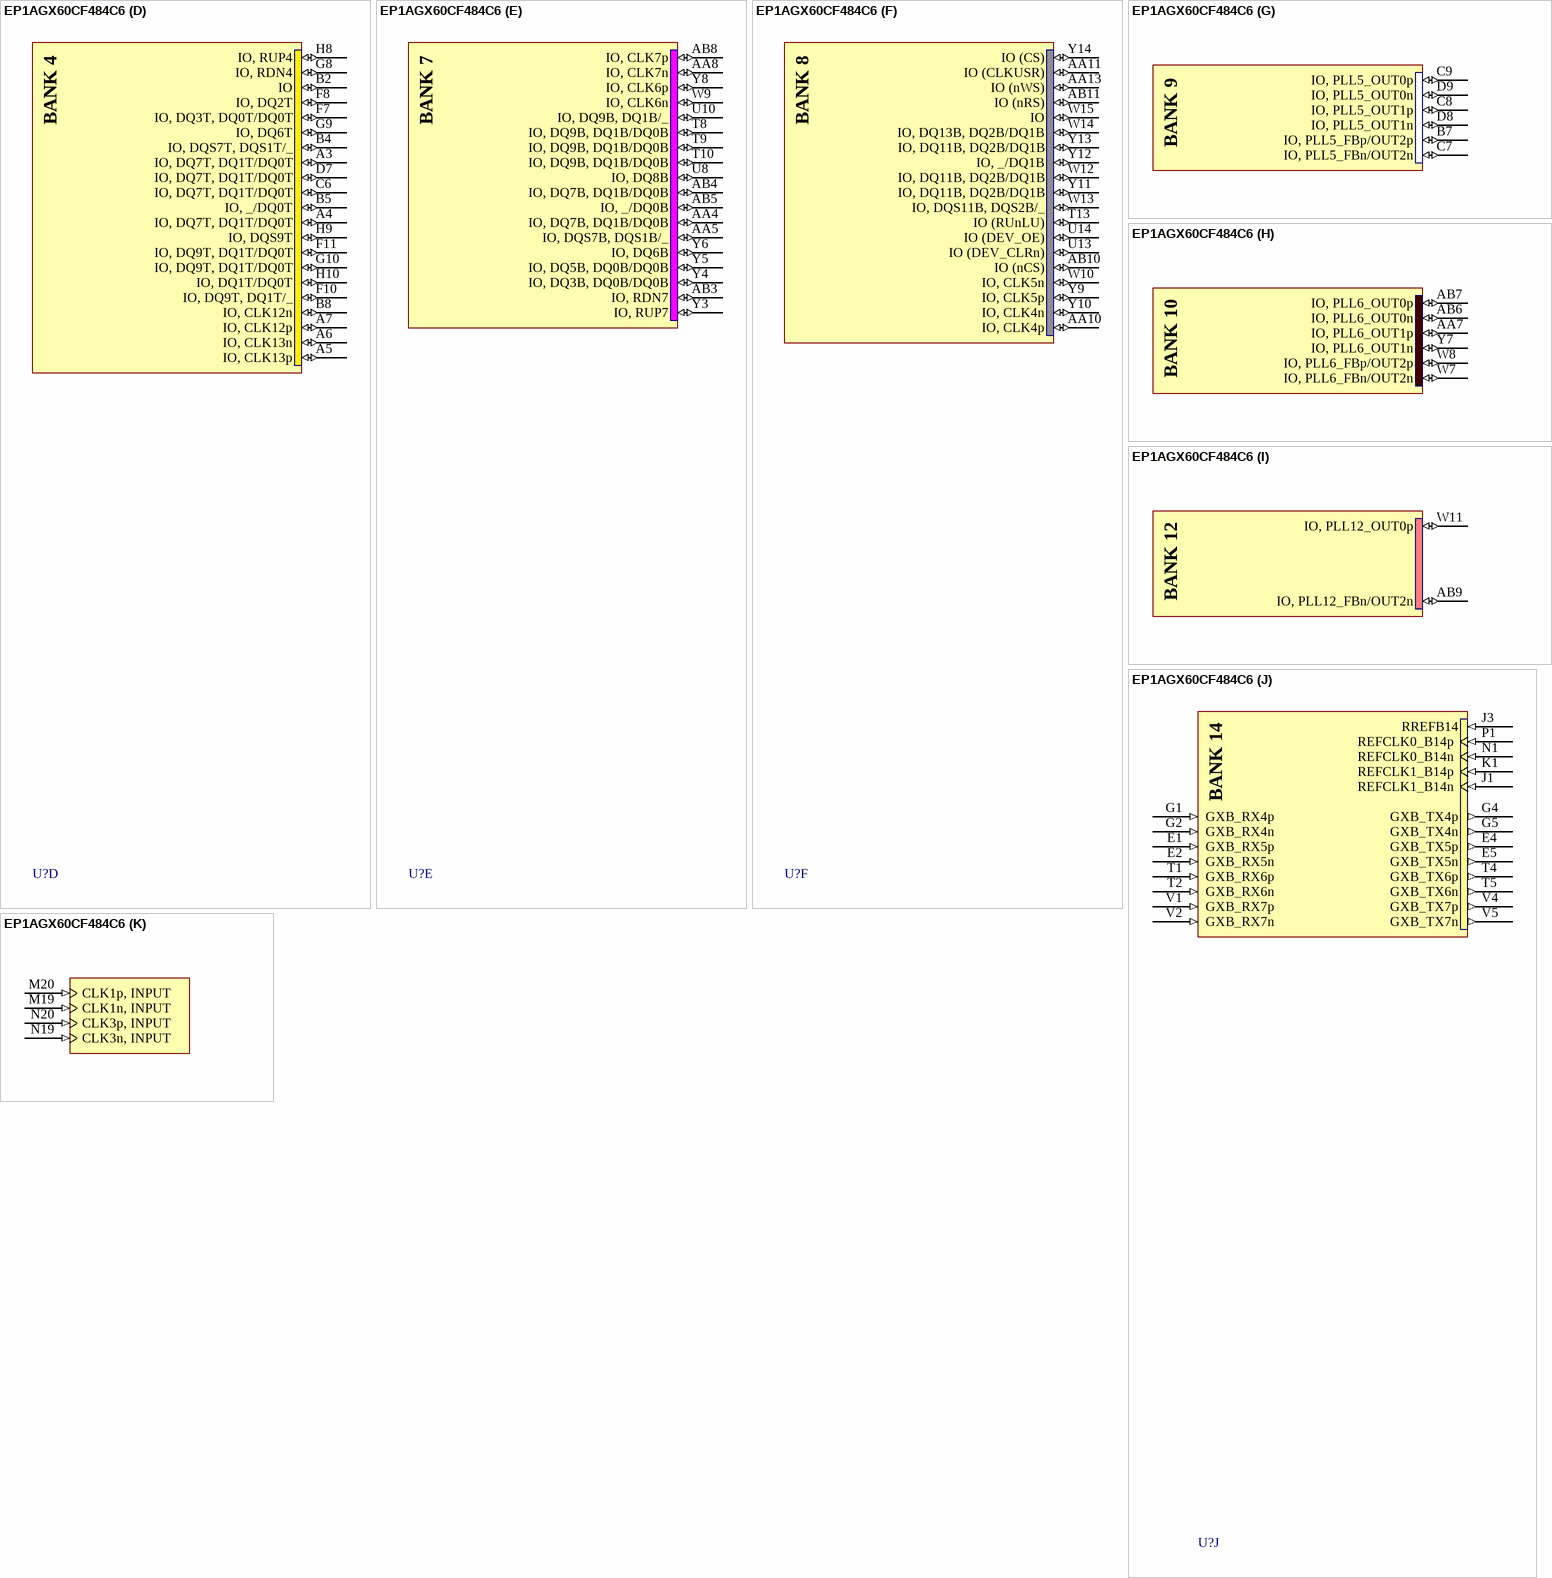
[diagram p88: symbol EP1AGX60CF484C6]

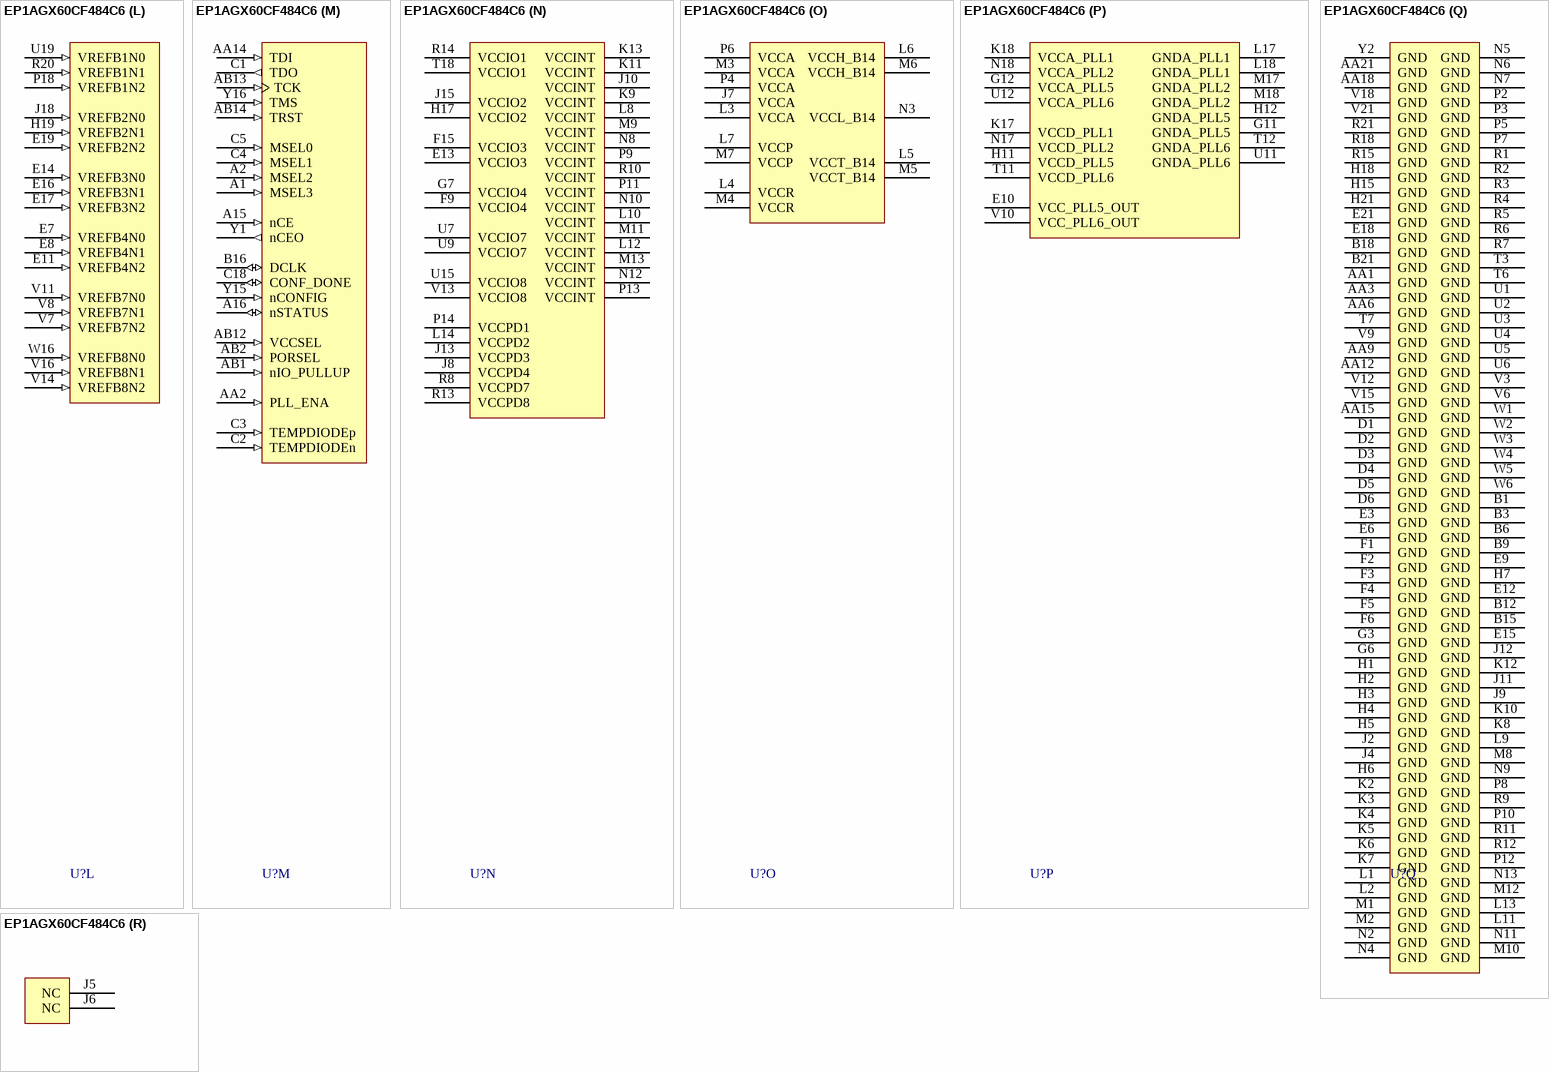
[diagram p89: symbol EP1AGX60CF484C6]

## EP1AGX60CF484C6
designator U?
Arria GX Family FPGA, 254 I/O Pins, 4 PLLs, 484-Pin FPGA, Speed Grade 6, Commercial Grade; Note: DQS signal pins named according to DQ bus modes.  "/" separates each mode. ie. Modes x8/x9 / Modes x16/x18.; DatasheetVersion: ver1.3, May-2008; PackageVersion: ver16.0, Dec-2009; PackageReference: FBGA484; PackageDescription: 484-Ball FineLine Ball Grid Array (FBGA484) - Flip Chip; Code_JEDEC: MS-034-AAJ-1; Code_IPC: BGA100P22X22-484; ComponentLink1Description: Manufacturer URL; ComponentLink1URL: http://www.altera.com/; ComponentLink2Description: Datasheet; ComponentLink2URL: http://www.altera.com/literature/hb/agx/arriagx_handbook.pdf; ComponentLink3Description: Package Specification; ComponentLink3URL: http://www.altera.com/literature/ds/dspkg.pdf
footprint FBGA484 (BGA, 484-Leads, Body 23x23mm, Pitch 1mm)
part A pins: AA16 IO, DIFFIO_TX9p (io), AA17 IO, DIFFIO_TX10n (io), AA19 IO, DIFFIO_RX9n (io), AA20 IO, DIFFIO_RX9p (io), AA22 IO, DIFFIO_RX12p (io), AB15 IO, DIFFIO_TX8n (io), AB16 IO, DIFFIO_TX8p (io), AB17 IO, DIFFIO_TX10p (io), AB18 IO, DIFFIO_RX10n (io), AB19 IO, DIFFIO_RX10p (io), AB20 IO, DIFFIO_RX11n (io), AB21 IO, DIFFIO_RX11p (io), AB22 IO, DIFFIO_RX12n (io), N21 IO, CLK2n/DIFFIO_RX_C1n (io), N22 IO, CLK2p/DIFFIO_RX_C1p (io), P17 IO, DIFFIO_TX18p (io), P19 IO, DIFFIO_RX19n (io), P20 IO, DIFFIO_RX19p (io), P21 IO, DIFFIO_RX20n (io), P22 IO, DIFFIO_RX20p (io), R16 IO, DIFFIO_TX18n (io), R17 IO, DIFFIO_TX15p (io), R19 IO, DIFFIO_TX11p (io), R22 IO, DIFFIO_RX18p (io), T14 IO, DIFFIO_TX20n (io), T15 IO, DIFFIO_TX20p (io), T16 IO, DIFFIO_TX19p (io), T17 IO, DIFFIO_TX15n (io), T19 IO, DIFFIO_TX11n (io), T20 IO, DIFFIO_RX17n (io), T21 IO, DIFFIO_RX17p (io), T22 IO, DIFFIO_RX18n (io), U16 IO, DIFFIO_TX19n (io), U17 IO, DIFFIO_TX16n (io), U18 IO, DIFFIO_TX16p (io), U20 IO, DIFFIO_RX16n (io), U21 IO, DIFFIO_RX16p (io), U22 IO, DIFFIO_RX15p (io), V17 IO, DIFFIO_TX17p (io), V19 IO, DIFFIO_TX12n (io), V20 IO, DIFFIO_TX12p (io), V22 IO, DIFFIO_RX15n (io), W17 IO, DIFFIO_TX17n (io), W18 IO, DIFFIO_TX14n (io), W19 IO, DIFFIO_TX14p (io), W20 IO, DIFFIO_RX8p (io), W21 IO, DIFFIO_RX14n (io), W22 IO, DIFFIO_RX14p (io), Y17 IO, DIFFIO_TX9n (io), Y18 IO, DIFFIO_TX13n (io), Y19 IO, DIFFIO_TX13p (io), Y20 IO, DIFFIO_RX8n (io), Y21 IO, DIFFIO_RX13n (io), Y22 IO, DIFFIO_RX13p (io)
part B pins: A17 IO, DIFFIO_RX35p (io), A18 IO, DIFFIO_RX34n (io), A19 IO, DIFFIO_RX34p (io), A20 IO, DIFFIO_RX33n (io), A21 IO, DIFFIO_RX33p (io), A22 IO, DIFFIO_RX32n (io), B17 IO, DIFFIO_RX35n (io), B19 IO, DIFFIO_RX36n (io), B20 IO, DIFFIO_RX36p (io), B22 IO, DIFFIO_RX32p (io), C19 IO, DIFFIO_TX35n (io), C20 IO, DIFFIO_TX35p (io), C21 IO, DIFFIO_RX31n (io), C22 IO, DIFFIO_RX31p (io), D18 IO, DIFFIO_TX36n (io), D19 IO, DIFFIO_TX36p (io), D20 IO, DIFFIO_TX34p (io), D21 IO, DIFFIO_RX30n (io), D22 IO, DIFFIO_RX30p (io), E20 IO, DIFFIO_TX34n (io), E22 IO, DIFFIO_RX29p (io), F17 IO, DIFFIO_TX31n (io), F18 IO, DIFFIO_TX31p (io), F19 IO, DIFFIO_TX33n (io), F20 IO, DIFFIO_TX33p (io), F21 IO, DIFFIO_RX28p (io), F22 IO, DIFFIO_RX29n (io), G16 IO, DIFFIO_TX30n (io), G17 IO, DIFFIO_TX30p (io), G18 IO, DIFFIO_TX32n (io), G19 IO, DIFFIO_TX32p (io), G20 IO, DIFFIO_RX27p (io), G21 IO, DIFFIO_RX28n (io), G22 IO, DIFFIO_RX26p (io), H16 IO, DIFFIO_TX29p (io), H20 IO, DIFFIO_RX27n (io), H22 IO, DIFFIO_RX26n (io), J16 IO, DIFFIO_TX29n (io), J17 IO, DIFFIO_TX27p (io), J19 IO, DIFFIO_RX24n (io), J20 IO, DIFFIO_RX24p (io), J21 IO, DIFFIO_RX25n (io), J22 IO, DIFFIO_RX25p (io), K14 IO, DIFFIO_TX28n (io), K15 IO, DIFFIO_TX28p (io), K16 IO, DIFFIO_TX27n (io), K19 IO, DIFFIO_TX23n (io), K20 IO, DIFFIO_TX23p (io), K21 IO, DIFFIO_RX23n (io), K22 IO, DIFFIO_RX23p (io), L15 IO, DIFFIO_TX26n (io), L16 IO, DIFFIO_TX26p (io), L19 IO, DIFFIO_RX21n (io), L20 IO, DIFFIO_RX21p (io), L21 IO, DIFFIO_RX22n (io), L22 IO, DIFFIO_RX22p (io), M14 IO, DIFFIO_TX25p (io), M15 IO, DIFFIO_TX24n (io), M16 IO, DIFFIO_TX24p (io), M21 IO, CLK0n/DIFFIO_RX_C0n (io), M22 IO, CLK0p/DIFFIO_RX_C0p (io), N14 IO, DIFFIO_TX25n (io), N15 IO, DIFFIO_TX22n (io), N16 IO, DIFFIO_TX22p (io), P15 IO, DIFFIO_TX21n (io), P16 IO, DIFFIO_TX21p (io)
part C pins: A8 IO, CLK14p (io), A9 IO, CLK14n (io), A10 IO (CRC_ERROR) (io), A11 IO (RDYnBSY) (io), A12 IO (DATA2) (io), A13 IO (DATA3) (io), A14 IO (DATA6) (io), B10 IO (nCSO) (io), B11 IO (DATA4) (io), B13 IO, DQ11T, DQ2T/DQ1T (io), B14 IO, DQ11T, DQ2T/DQ1T (io), C10 IO, CLK15p (io), C11 IO (PGM2) (io), C12 IO, DQ11T, DQ2T/DQ1T (io), C13 IO, DQ11T, DQ2T/DQ1T (io), C14 IO, _/DQ1T (io), C15 IO, DQ17T, DQ3T/DQ1T (io), C16 IO (DATA7) (io), C17 IO (INIT_DONE) (io), D10 IO, CLK15n (io), D11 IO (DATA0) (io), D12 IO (PGM0) (io), D13 IO (PGM1) (io), D14 IO, DQS11T, DQS2T/_ (io), D15 IO (io), D16 IO, DQ3T/DQ1T (io), D17 IO (DATA5) (io), F12 IO (ASDO) (io), F13 IO (DATA1) (io), F14 IO, DQ10T (io), F16 IO, DQ15T, DQ3T/DQ1T (io), G13 IO, DQ10T (io), G14 IO, DQ2T/_ (io), G15 IO, DQ13T, DQ2T/DQ1T (io), H13 IO, DQS13T, _/DQS1T (io), H14 IO, DQ13T, DQ2T/DQ1T (io), J14 IO, DQ13T, DQ2T/DQ1T (io)
part D pins: A3 IO, DQ7T, DQ1T/DQ0T (io), A4 IO, DQ7T, DQ1T/DQ0T (io), A5 IO, CLK13p (io), A6 IO, CLK13n (io), A7 IO, CLK12p (io), B2 IO (io), B4 IO, DQS7T, DQS1T/_ (io), B5 IO, _/DQ0T (io), B8 IO, CLK12n (io), C6 IO, DQ7T, DQ1T/DQ0T (io), D7 IO, DQ7T, DQ1T/DQ0T (io), F7 IO, DQ3T, DQ0T/DQ0T (io), F8 IO, DQ2T (io), F10 IO, DQ9T, DQ1T/_ (io), F11 IO, DQ9T, DQ1T/DQ0T (io), G8 IO, RDN4 (io), G9 IO, DQ6T (io), G10 IO, DQ9T, DQ1T/DQ0T (io), H8 IO, RUP4 (io), H9 IO, DQS9T (io), H10 IO, DQ1T/DQ0T (io)
part E pins: AA4 IO, DQ7B, DQ1B/DQ0B (io), AA5 IO, DQS7B, DQS1B/_ (io), AA8 IO, CLK7n (io), AB3 IO, RDN7 (io), AB4 IO, DQ7B, DQ1B/DQ0B (io), AB5 IO, _/DQ0B (io), AB8 IO, CLK7p (io), T8 IO, DQ9B, DQ1B/DQ0B (io), T9 IO, DQ9B, DQ1B/DQ0B (io), T10 IO, DQ9B, DQ1B/DQ0B (io), U8 IO, DQ8B (io), U10 IO, DQ9B, DQ1B/_ (io), W9 IO, CLK6n (io), Y3 IO, RUP7 (io), Y4 IO, DQ3B, DQ0B/DQ0B (io), Y5 IO, DQ5B, DQ0B/DQ0B (io), Y6 IO, DQ6B (io), Y8 IO, CLK6p (io)
part F pins: AA10 IO, CLK4p (io), AA11 IO (CLKUSR) (io), AA13 IO (nWS) (io), AB10 IO (nCS) (io), AB11 IO (nRS) (io), T13 IO (RUnLU) (io), U13 IO (DEV_CLRn) (io), U14 IO (DEV_OE) (io), W10 IO, CLK5n (io), W12 IO, DQ11B, DQ2B/DQ1B (io), W13 IO, DQS11B, DQS2B/_ (io), W14 IO, DQ13B, DQ2B/DQ1B (io), W15 IO (io), Y9 IO, CLK5p (io), Y10 IO, CLK4n (io), Y11 IO, DQ11B, DQ2B/DQ1B (io), Y12 IO, _/DQ1B (io), Y13 IO, DQ11B, DQ2B/DQ1B (io), Y14 IO (CS) (io)
part G pins: B7 IO, PLL5_FBp/OUT2p (io), C7 IO, PLL5_FBn/OUT2n (io), C8 IO, PLL5_OUT1p (io), C9 IO, PLL5_OUT0p (io), D8 IO, PLL5_OUT1n (io), D9 IO, PLL5_OUT0n (io)
part H pins: AA7 IO, PLL6_OUT1p (io), AB6 IO, PLL6_OUT0n (io), AB7 IO, PLL6_OUT0p (io), W7 IO, PLL6_FBn/OUT2n (io), W8 IO, PLL6_FBp/OUT2p (io), Y7 IO, PLL6_OUT1n (io)
part I pins: AB9 IO, PLL12_FBn/OUT2n (io), W11 IO, PLL12_OUT0p (io)
part J pins: E1 GXB_RX5p (in), E2 GXB_RX5n (in), E4 GXB_TX5p (out), E5 GXB_TX5n (out), G1 GXB_RX4p (in), G2 GXB_RX4n (in), G4 GXB_TX4p (out), G5 GXB_TX4n (out), J1 REFCLK1_B14n (in), J3 RREFB14 (in), K1 REFCLK1_B14p (in), N1 REFCLK0_B14n (in), P1 REFCLK0_B14p (in), T1 GXB_RX6p (in), T2 GXB_RX6n (in), T4 GXB_TX6p (out), T5 GXB_TX6n (out), V1 GXB_RX7p (in), V2 GXB_RX7n (in), V4 GXB_TX7p (out), V5 GXB_TX7n (out)
part K pins: M19 CLK1n, INPUT (in), M20 CLK1p, INPUT (in), N19 CLK3n, INPUT (in), N20 CLK3p, INPUT (in)
part L pins: E7 VREFB4N0 (in), E8 VREFB4N1 (in), E11 VREFB4N2 (in), E14 VREFB3N0 (in), E16 VREFB3N1 (in), E17 VREFB3N2 (in), E19 VREFB2N2 (in), H19 VREFB2N1 (in), J18 VREFB2N0 (in), P18 VREFB1N2 (in), R20 VREFB1N1 (in), U19 VREFB1N0 (in), V7 VREFB7N2 (in), V8 VREFB7N1 (in), V11 VREFB7N0 (in), V14 VREFB8N2 (in), V16 VREFB8N1 (in), W16 VREFB8N0 (in)
part M pins: A1 MSEL3 (in), A2 MSEL2 (in), A15 nCE (in), A16 nSTATUS (io), AA2 PLL_ENA (in), AA14 TDI (in), AB1 nIO_PULLUP (in), AB2 PORSEL (in), AB12 VCCSEL (in), AB13 TCK (in), AB14 TRST (in), B16 DCLK (io), C1 TDO (out), C2 TEMPDIODEn (in), C3 TEMPDIODEp (in), C4 MSEL1 (in), C5 MSEL0 (in), C18 CONF_DONE (io), Y1 nCEO (out), Y15 nCONFIG (in), Y16 TMS (in)
part N pins: E13 VCCIO3 (power), F9 VCCIO4 (power), F15 VCCIO3 (power), G7 VCCIO4 (power), H17 VCCIO2 (power), J8 VCCPD4 (power), J10 VCCINT (power), J13 VCCPD3 (power), J15 VCCIO2 (power), K9 VCCINT (power), K11 VCCINT (power), K13 VCCINT (power), L8 VCCINT (power), L10 VCCINT (power), L12 VCCINT (power), L14 VCCPD2 (power), M9 VCCINT (power), M11 VCCINT (power), M13 VCCINT (power), N8 VCCINT (power), N10 VCCINT (power), N12 VCCINT (power), P9 VCCINT (power), P11 VCCINT (power), P13 VCCINT (power), P14 VCCPD1 (power), R8 VCCPD7 (power), R10 VCCINT (power), R13 VCCPD8 (power), R14 VCCIO1 (power), T18 VCCIO1 (power), U7 VCCIO7 (power), U9 VCCIO7 (power), U15 VCCIO8 (power), V13 VCCIO8 (power)
part O pins: J7 VCCA (power), L3 VCCA (power), L4 VCCR (power), L5 VCCT_B14 (power), L6 VCCH_B14 (power), L7 VCCP (power), M3 VCCA (power), M4 VCCR (power), M5 VCCT_B14 (power), M6 VCCH_B14 (power), M7 VCCP (power), N3 VCCL_B14 (power), P4 VCCA (power), P6 VCCA (power)
part P pins: E10 VCC_PLL5_OUT (power), G11 GNDA_PLL5 (power), G12 VCCA_PLL5 (power), H11 VCCD_PLL5 (power), H12 GNDA_PLL5 (power), K17 VCCD_PLL1 (power), K18 VCCA_PLL1 (power), L17 GNDA_PLL1 (power), L18 GNDA_PLL1 (power), M17 GNDA_PLL2 (power), M18 GNDA_PLL2 (power), N17 VCCD_PLL2 (power), N18 VCCA_PLL2 (power), T11 VCCD_PLL6 (power), T12 GNDA_PLL6 (power), U11 GNDA_PLL6 (power), U12 VCCA_PLL6 (power), V10 VCC_PLL6_OUT (power)
part Q pins: AA1 GND (power), AA3 GND (power), AA6 GND (power), AA9 GND (power), AA12 GND (power), AA15 GND (power), AA18 GND (power), AA21 GND (power), B1 GND (power), B3 GND (power), B6 GND (power), B9 GND (power), B12 GND (power), B15 GND (power), B18 GND (power), B21 GND (power), D1 GND (power), D2 GND (power), D3 GND (power), D4 GND (power), D5 GND (power), D6 GND (power), E3 GND (power), E6 GND (power), E9 GND (power), E12 GND (power), E15 GND (power), E18 GND (power), E21 GND (power), F1 GND (power), F2 GND (power), F3 GND (power), F4 GND (power), F5 GND (power), F6 GND (power), G3 GND (power), G6 GND (power), H1 GND (power), H2 GND (power), H3 GND (power), H4 GND (power), H5 GND (power), H6 GND (power), H7 GND (power), H15 GND (power), H18 GND (power), H21 GND (power), J2 GND (power), J4 GND (power), J9 GND (power), J11 GND (power), J12 GND (power), K2 GND (power), K3 GND (power), K4 GND (power), K5 GND (power), K6 GND (power), K7 GND (power), K8 GND (power), K10 GND (power), K12 GND (power), L1 GND (power), L2 GND (power), L9 GND (power), L11 GND (power), L13 GND (power), M1 GND (power), M2 GND (power), M8 GND (power), M10 GND (power), M12 GND (power), N2 GND (power), N4 GND (power), N5 GND (power), N6 GND (power), N7 GND (power), N9 GND (power), N11 GND (power), N13 GND (power), P2 GND (power), P3 GND (power), P5 GND (power), P7 GND (power), P8 GND (power), P10 GND (power), P12 GND (power), R1 GND (power), R2 GND (power), R3 GND (power), R4 GND (power), R5 GND (power), R6 GND (power), R7 GND (power), R9 GND (power), R11 GND (power), R12 GND (power), R15 GND (power), R18 GND (power), R21 GND (power), T3 GND (power), T6 GND (power), T7 GND (power), U1 GND (power), U2 GND (power), U3 GND (power), U4 GND (power), U5 GND (power), U6 GND (power), V3 GND (power), V6 GND (power), V9 GND (power), V12 GND (power), V15 GND (power), V18 GND (power), V21 GND (power), W1 GND (power), W2 GND (power), W3 GND (power), W4 GND (power), W5 GND (power), W6 GND (power), Y2 GND (power)
part R pins: J5 NC, J6 NC
part A text: BANK 1
part B text: BANK 2
part C text: BANK 3
part D text: BANK 4
part E text: BANK 7
part F text: BANK 8
part G text: BANK 9
part H text: BANK 10
part I text: BANK 12
part J text: BANK 14

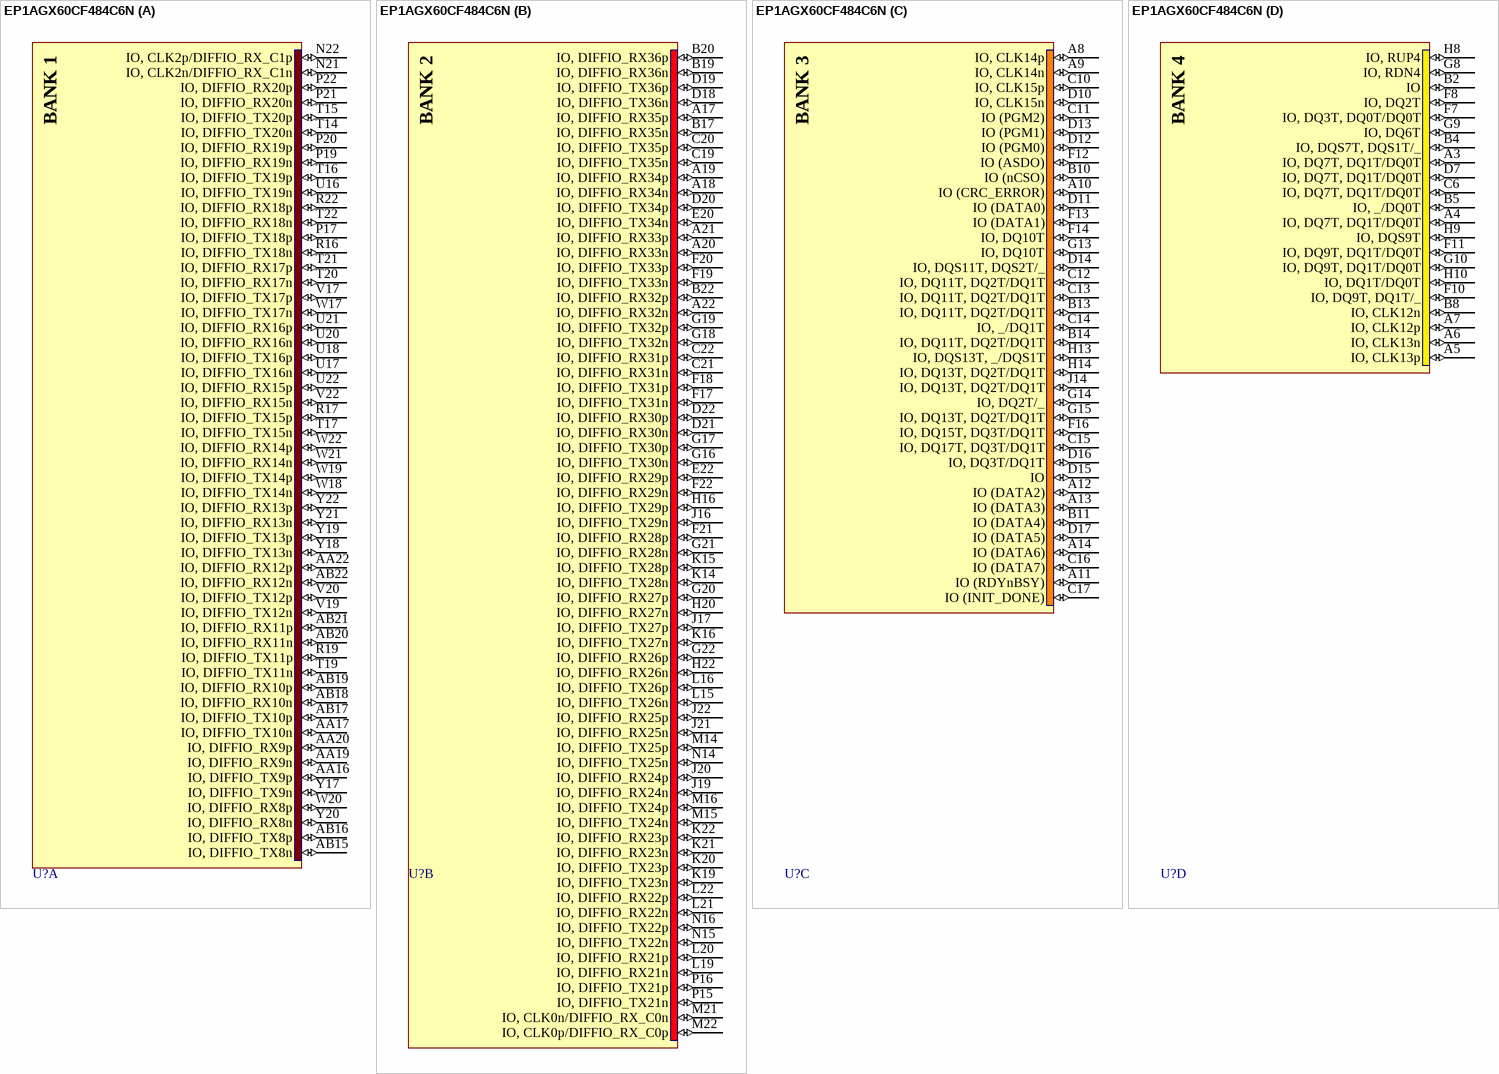
[diagram p90: symbol EP1AGX60CF484C6N]

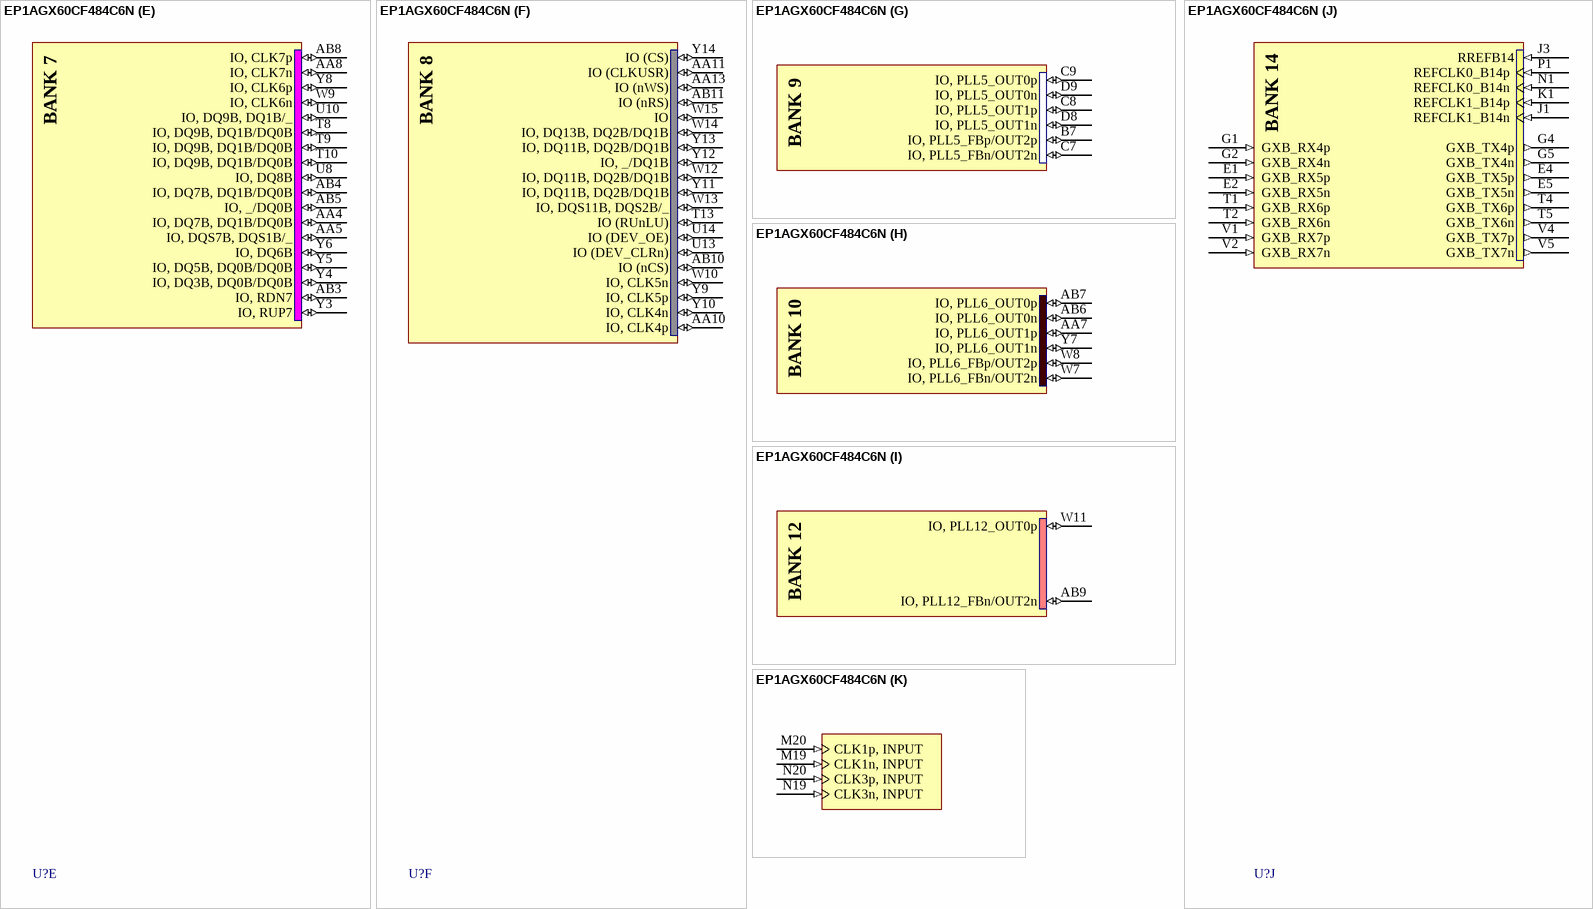
[diagram p91: symbol EP1AGX60CF484C6N]

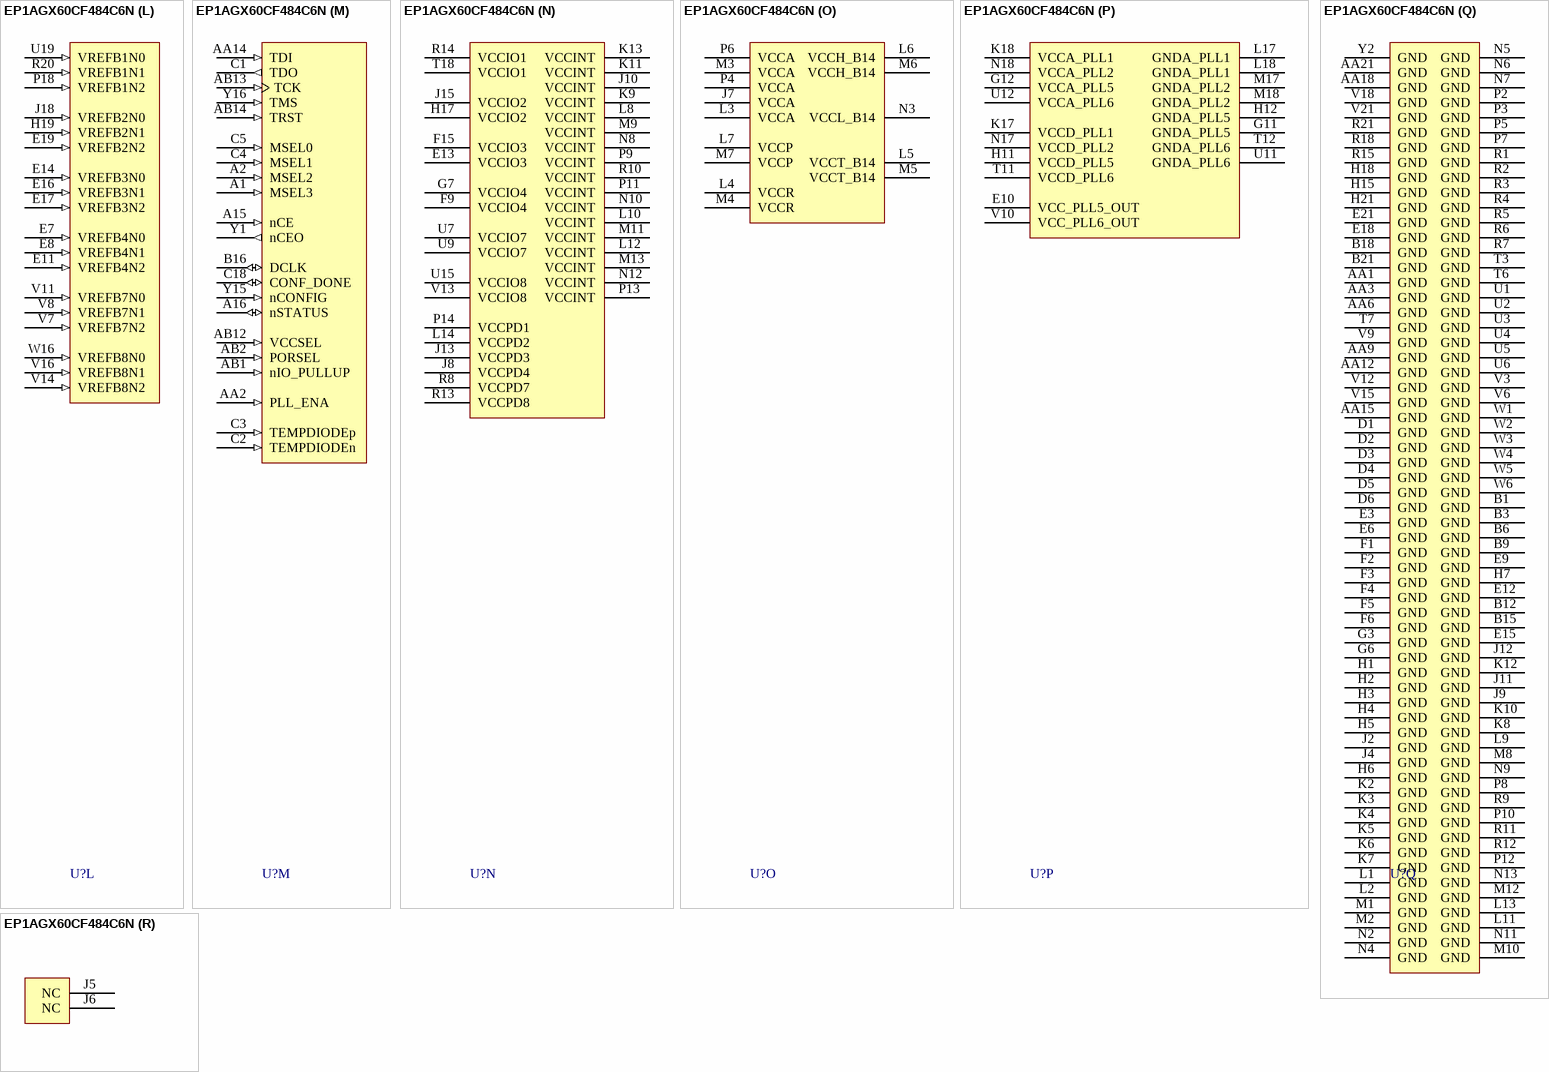
[diagram p92: symbol EP1AGX60CF484C6N]

## EP1AGX60CF484C6N
designator U?
Arria GX Family FPGA, 254 I/O Pins, 4 PLLs, 484-Pin FPGA, Speed Grade 6, Commercial Grade, Pb-Free; Note: DQS signal pins named according to DQ bus modes.  "/" separates each mode. ie. Modes x8/x9 / Modes x16/x18.; DatasheetVersion: ver1.3, May-2008; PackageVersion: ver16.0, Dec-2009; PackageReference: FBGA484; PackageDescription: 484-Ball FineLine Ball Grid Array (FBGA484) - Flip Chip; Code_JEDEC: MS-034-AAJ-1; Code_IPC: BGA100P22X22-484; ComponentLink1Description: Manufacturer URL; ComponentLink1URL: http://www.altera.com/; ComponentLink2Description: Datasheet; ComponentLink2URL: http://www.altera.com/literature/hb/agx/arriagx_handbook.pdf; ComponentLink3Description: Package Specification; ComponentLink3URL: http://www.altera.com/literature/ds/dspkg.pdf
footprint FBGA484 (BGA, 484-Leads, Body 23x23mm, Pitch 1mm)
part A pins: AA16 IO, DIFFIO_TX9p (io), AA17 IO, DIFFIO_TX10n (io), AA19 IO, DIFFIO_RX9n (io), AA20 IO, DIFFIO_RX9p (io), AA22 IO, DIFFIO_RX12p (io), AB15 IO, DIFFIO_TX8n (io), AB16 IO, DIFFIO_TX8p (io), AB17 IO, DIFFIO_TX10p (io), AB18 IO, DIFFIO_RX10n (io), AB19 IO, DIFFIO_RX10p (io), AB20 IO, DIFFIO_RX11n (io), AB21 IO, DIFFIO_RX11p (io), AB22 IO, DIFFIO_RX12n (io), N21 IO, CLK2n/DIFFIO_RX_C1n (io), N22 IO, CLK2p/DIFFIO_RX_C1p (io), P17 IO, DIFFIO_TX18p (io), P19 IO, DIFFIO_RX19n (io), P20 IO, DIFFIO_RX19p (io), P21 IO, DIFFIO_RX20n (io), P22 IO, DIFFIO_RX20p (io), R16 IO, DIFFIO_TX18n (io), R17 IO, DIFFIO_TX15p (io), R19 IO, DIFFIO_TX11p (io), R22 IO, DIFFIO_RX18p (io), T14 IO, DIFFIO_TX20n (io), T15 IO, DIFFIO_TX20p (io), T16 IO, DIFFIO_TX19p (io), T17 IO, DIFFIO_TX15n (io), T19 IO, DIFFIO_TX11n (io), T20 IO, DIFFIO_RX17n (io), T21 IO, DIFFIO_RX17p (io), T22 IO, DIFFIO_RX18n (io), U16 IO, DIFFIO_TX19n (io), U17 IO, DIFFIO_TX16n (io), U18 IO, DIFFIO_TX16p (io), U20 IO, DIFFIO_RX16n (io), U21 IO, DIFFIO_RX16p (io), U22 IO, DIFFIO_RX15p (io), V17 IO, DIFFIO_TX17p (io), V19 IO, DIFFIO_TX12n (io), V20 IO, DIFFIO_TX12p (io), V22 IO, DIFFIO_RX15n (io), W17 IO, DIFFIO_TX17n (io), W18 IO, DIFFIO_TX14n (io), W19 IO, DIFFIO_TX14p (io), W20 IO, DIFFIO_RX8p (io), W21 IO, DIFFIO_RX14n (io), W22 IO, DIFFIO_RX14p (io), Y17 IO, DIFFIO_TX9n (io), Y18 IO, DIFFIO_TX13n (io), Y19 IO, DIFFIO_TX13p (io), Y20 IO, DIFFIO_RX8n (io), Y21 IO, DIFFIO_RX13n (io), Y22 IO, DIFFIO_RX13p (io)
part B pins: A17 IO, DIFFIO_RX35p (io), A18 IO, DIFFIO_RX34n (io), A19 IO, DIFFIO_RX34p (io), A20 IO, DIFFIO_RX33n (io), A21 IO, DIFFIO_RX33p (io), A22 IO, DIFFIO_RX32n (io), B17 IO, DIFFIO_RX35n (io), B19 IO, DIFFIO_RX36n (io), B20 IO, DIFFIO_RX36p (io), B22 IO, DIFFIO_RX32p (io), C19 IO, DIFFIO_TX35n (io), C20 IO, DIFFIO_TX35p (io), C21 IO, DIFFIO_RX31n (io), C22 IO, DIFFIO_RX31p (io), D18 IO, DIFFIO_TX36n (io), D19 IO, DIFFIO_TX36p (io), D20 IO, DIFFIO_TX34p (io), D21 IO, DIFFIO_RX30n (io), D22 IO, DIFFIO_RX30p (io), E20 IO, DIFFIO_TX34n (io), E22 IO, DIFFIO_RX29p (io), F17 IO, DIFFIO_TX31n (io), F18 IO, DIFFIO_TX31p (io), F19 IO, DIFFIO_TX33n (io), F20 IO, DIFFIO_TX33p (io), F21 IO, DIFFIO_RX28p (io), F22 IO, DIFFIO_RX29n (io), G16 IO, DIFFIO_TX30n (io), G17 IO, DIFFIO_TX30p (io), G18 IO, DIFFIO_TX32n (io), G19 IO, DIFFIO_TX32p (io), G20 IO, DIFFIO_RX27p (io), G21 IO, DIFFIO_RX28n (io), G22 IO, DIFFIO_RX26p (io), H16 IO, DIFFIO_TX29p (io), H20 IO, DIFFIO_RX27n (io), H22 IO, DIFFIO_RX26n (io), J16 IO, DIFFIO_TX29n (io), J17 IO, DIFFIO_TX27p (io), J19 IO, DIFFIO_RX24n (io), J20 IO, DIFFIO_RX24p (io), J21 IO, DIFFIO_RX25n (io), J22 IO, DIFFIO_RX25p (io), K14 IO, DIFFIO_TX28n (io), K15 IO, DIFFIO_TX28p (io), K16 IO, DIFFIO_TX27n (io), K19 IO, DIFFIO_TX23n (io), K20 IO, DIFFIO_TX23p (io), K21 IO, DIFFIO_RX23n (io), K22 IO, DIFFIO_RX23p (io), L15 IO, DIFFIO_TX26n (io), L16 IO, DIFFIO_TX26p (io), L19 IO, DIFFIO_RX21n (io), L20 IO, DIFFIO_RX21p (io), L21 IO, DIFFIO_RX22n (io), L22 IO, DIFFIO_RX22p (io), M14 IO, DIFFIO_TX25p (io), M15 IO, DIFFIO_TX24n (io), M16 IO, DIFFIO_TX24p (io), M21 IO, CLK0n/DIFFIO_RX_C0n (io), M22 IO, CLK0p/DIFFIO_RX_C0p (io), N14 IO, DIFFIO_TX25n (io), N15 IO, DIFFIO_TX22n (io), N16 IO, DIFFIO_TX22p (io), P15 IO, DIFFIO_TX21n (io), P16 IO, DIFFIO_TX21p (io)
part C pins: A8 IO, CLK14p (io), A9 IO, CLK14n (io), A10 IO (CRC_ERROR) (io), A11 IO (RDYnBSY) (io), A12 IO (DATA2) (io), A13 IO (DATA3) (io), A14 IO (DATA6) (io), B10 IO (nCSO) (io), B11 IO (DATA4) (io), B13 IO, DQ11T, DQ2T/DQ1T (io), B14 IO, DQ11T, DQ2T/DQ1T (io), C10 IO, CLK15p (io), C11 IO (PGM2) (io), C12 IO, DQ11T, DQ2T/DQ1T (io), C13 IO, DQ11T, DQ2T/DQ1T (io), C14 IO, _/DQ1T (io), C15 IO, DQ17T, DQ3T/DQ1T (io), C16 IO (DATA7) (io), C17 IO (INIT_DONE) (io), D10 IO, CLK15n (io), D11 IO (DATA0) (io), D12 IO (PGM0) (io), D13 IO (PGM1) (io), D14 IO, DQS11T, DQS2T/_ (io), D15 IO (io), D16 IO, DQ3T/DQ1T (io), D17 IO (DATA5) (io), F12 IO (ASDO) (io), F13 IO (DATA1) (io), F14 IO, DQ10T (io), F16 IO, DQ15T, DQ3T/DQ1T (io), G13 IO, DQ10T (io), G14 IO, DQ2T/_ (io), G15 IO, DQ13T, DQ2T/DQ1T (io), H13 IO, DQS13T, _/DQS1T (io), H14 IO, DQ13T, DQ2T/DQ1T (io), J14 IO, DQ13T, DQ2T/DQ1T (io)
part D pins: A3 IO, DQ7T, DQ1T/DQ0T (io), A4 IO, DQ7T, DQ1T/DQ0T (io), A5 IO, CLK13p (io), A6 IO, CLK13n (io), A7 IO, CLK12p (io), B2 IO (io), B4 IO, DQS7T, DQS1T/_ (io), B5 IO, _/DQ0T (io), B8 IO, CLK12n (io), C6 IO, DQ7T, DQ1T/DQ0T (io), D7 IO, DQ7T, DQ1T/DQ0T (io), F7 IO, DQ3T, DQ0T/DQ0T (io), F8 IO, DQ2T (io), F10 IO, DQ9T, DQ1T/_ (io), F11 IO, DQ9T, DQ1T/DQ0T (io), G8 IO, RDN4 (io), G9 IO, DQ6T (io), G10 IO, DQ9T, DQ1T/DQ0T (io), H8 IO, RUP4 (io), H9 IO, DQS9T (io), H10 IO, DQ1T/DQ0T (io)
part E pins: AA4 IO, DQ7B, DQ1B/DQ0B (io), AA5 IO, DQS7B, DQS1B/_ (io), AA8 IO, CLK7n (io), AB3 IO, RDN7 (io), AB4 IO, DQ7B, DQ1B/DQ0B (io), AB5 IO, _/DQ0B (io), AB8 IO, CLK7p (io), T8 IO, DQ9B, DQ1B/DQ0B (io), T9 IO, DQ9B, DQ1B/DQ0B (io), T10 IO, DQ9B, DQ1B/DQ0B (io), U8 IO, DQ8B (io), U10 IO, DQ9B, DQ1B/_ (io), W9 IO, CLK6n (io), Y3 IO, RUP7 (io), Y4 IO, DQ3B, DQ0B/DQ0B (io), Y5 IO, DQ5B, DQ0B/DQ0B (io), Y6 IO, DQ6B (io), Y8 IO, CLK6p (io)
part F pins: AA10 IO, CLK4p (io), AA11 IO (CLKUSR) (io), AA13 IO (nWS) (io), AB10 IO (nCS) (io), AB11 IO (nRS) (io), T13 IO (RUnLU) (io), U13 IO (DEV_CLRn) (io), U14 IO (DEV_OE) (io), W10 IO, CLK5n (io), W12 IO, DQ11B, DQ2B/DQ1B (io), W13 IO, DQS11B, DQS2B/_ (io), W14 IO, DQ13B, DQ2B/DQ1B (io), W15 IO (io), Y9 IO, CLK5p (io), Y10 IO, CLK4n (io), Y11 IO, DQ11B, DQ2B/DQ1B (io), Y12 IO, _/DQ1B (io), Y13 IO, DQ11B, DQ2B/DQ1B (io), Y14 IO (CS) (io)
part G pins: B7 IO, PLL5_FBp/OUT2p (io), C7 IO, PLL5_FBn/OUT2n (io), C8 IO, PLL5_OUT1p (io), C9 IO, PLL5_OUT0p (io), D8 IO, PLL5_OUT1n (io), D9 IO, PLL5_OUT0n (io)
part H pins: AA7 IO, PLL6_OUT1p (io), AB6 IO, PLL6_OUT0n (io), AB7 IO, PLL6_OUT0p (io), W7 IO, PLL6_FBn/OUT2n (io), W8 IO, PLL6_FBp/OUT2p (io), Y7 IO, PLL6_OUT1n (io)
part I pins: AB9 IO, PLL12_FBn/OUT2n (io), W11 IO, PLL12_OUT0p (io)
part J pins: E1 GXB_RX5p (in), E2 GXB_RX5n (in), E4 GXB_TX5p (out), E5 GXB_TX5n (out), G1 GXB_RX4p (in), G2 GXB_RX4n (in), G4 GXB_TX4p (out), G5 GXB_TX4n (out), J1 REFCLK1_B14n (in), J3 RREFB14 (in), K1 REFCLK1_B14p (in), N1 REFCLK0_B14n (in), P1 REFCLK0_B14p (in), T1 GXB_RX6p (in), T2 GXB_RX6n (in), T4 GXB_TX6p (out), T5 GXB_TX6n (out), V1 GXB_RX7p (in), V2 GXB_RX7n (in), V4 GXB_TX7p (out), V5 GXB_TX7n (out)
part K pins: M19 CLK1n, INPUT (in), M20 CLK1p, INPUT (in), N19 CLK3n, INPUT (in), N20 CLK3p, INPUT (in)
part L pins: E7 VREFB4N0 (in), E8 VREFB4N1 (in), E11 VREFB4N2 (in), E14 VREFB3N0 (in), E16 VREFB3N1 (in), E17 VREFB3N2 (in), E19 VREFB2N2 (in), H19 VREFB2N1 (in), J18 VREFB2N0 (in), P18 VREFB1N2 (in), R20 VREFB1N1 (in), U19 VREFB1N0 (in), V7 VREFB7N2 (in), V8 VREFB7N1 (in), V11 VREFB7N0 (in), V14 VREFB8N2 (in), V16 VREFB8N1 (in), W16 VREFB8N0 (in)
part M pins: A1 MSEL3 (in), A2 MSEL2 (in), A15 nCE (in), A16 nSTATUS (io), AA2 PLL_ENA (in), AA14 TDI (in), AB1 nIO_PULLUP (in), AB2 PORSEL (in), AB12 VCCSEL (in), AB13 TCK (in), AB14 TRST (in), B16 DCLK (io), C1 TDO (out), C2 TEMPDIODEn (in), C3 TEMPDIODEp (in), C4 MSEL1 (in), C5 MSEL0 (in), C18 CONF_DONE (io), Y1 nCEO (out), Y15 nCONFIG (in), Y16 TMS (in)
part N pins: E13 VCCIO3 (power), F9 VCCIO4 (power), F15 VCCIO3 (power), G7 VCCIO4 (power), H17 VCCIO2 (power), J8 VCCPD4 (power), J10 VCCINT (power), J13 VCCPD3 (power), J15 VCCIO2 (power), K9 VCCINT (power), K11 VCCINT (power), K13 VCCINT (power), L8 VCCINT (power), L10 VCCINT (power), L12 VCCINT (power), L14 VCCPD2 (power), M9 VCCINT (power), M11 VCCINT (power), M13 VCCINT (power), N8 VCCINT (power), N10 VCCINT (power), N12 VCCINT (power), P9 VCCINT (power), P11 VCCINT (power), P13 VCCINT (power), P14 VCCPD1 (power), R8 VCCPD7 (power), R10 VCCINT (power), R13 VCCPD8 (power), R14 VCCIO1 (power), T18 VCCIO1 (power), U7 VCCIO7 (power), U9 VCCIO7 (power), U15 VCCIO8 (power), V13 VCCIO8 (power)
part O pins: J7 VCCA (power), L3 VCCA (power), L4 VCCR (power), L5 VCCT_B14 (power), L6 VCCH_B14 (power), L7 VCCP (power), M3 VCCA (power), M4 VCCR (power), M5 VCCT_B14 (power), M6 VCCH_B14 (power), M7 VCCP (power), N3 VCCL_B14 (power), P4 VCCA (power), P6 VCCA (power)
part P pins: E10 VCC_PLL5_OUT (power), G11 GNDA_PLL5 (power), G12 VCCA_PLL5 (power), H11 VCCD_PLL5 (power), H12 GNDA_PLL5 (power), K17 VCCD_PLL1 (power), K18 VCCA_PLL1 (power), L17 GNDA_PLL1 (power), L18 GNDA_PLL1 (power), M17 GNDA_PLL2 (power), M18 GNDA_PLL2 (power), N17 VCCD_PLL2 (power), N18 VCCA_PLL2 (power), T11 VCCD_PLL6 (power), T12 GNDA_PLL6 (power), U11 GNDA_PLL6 (power), U12 VCCA_PLL6 (power), V10 VCC_PLL6_OUT (power)
part Q pins: AA1 GND (power), AA3 GND (power), AA6 GND (power), AA9 GND (power), AA12 GND (power), AA15 GND (power), AA18 GND (power), AA21 GND (power), B1 GND (power), B3 GND (power), B6 GND (power), B9 GND (power), B12 GND (power), B15 GND (power), B18 GND (power), B21 GND (power), D1 GND (power), D2 GND (power), D3 GND (power), D4 GND (power), D5 GND (power), D6 GND (power), E3 GND (power), E6 GND (power), E9 GND (power), E12 GND (power), E15 GND (power), E18 GND (power), E21 GND (power), F1 GND (power), F2 GND (power), F3 GND (power), F4 GND (power), F5 GND (power), F6 GND (power), G3 GND (power), G6 GND (power), H1 GND (power), H2 GND (power), H3 GND (power), H4 GND (power), H5 GND (power), H6 GND (power), H7 GND (power), H15 GND (power), H18 GND (power), H21 GND (power), J2 GND (power), J4 GND (power), J9 GND (power), J11 GND (power), J12 GND (power), K2 GND (power), K3 GND (power), K4 GND (power), K5 GND (power), K6 GND (power), K7 GND (power), K8 GND (power), K10 GND (power), K12 GND (power), L1 GND (power), L2 GND (power), L9 GND (power), L11 GND (power), L13 GND (power), M1 GND (power), M2 GND (power), M8 GND (power), M10 GND (power), M12 GND (power), N2 GND (power), N4 GND (power), N5 GND (power), N6 GND (power), N7 GND (power), N9 GND (power), N11 GND (power), N13 GND (power), P2 GND (power), P3 GND (power), P5 GND (power), P7 GND (power), P8 GND (power), P10 GND (power), P12 GND (power), R1 GND (power), R2 GND (power), R3 GND (power), R4 GND (power), R5 GND (power), R6 GND (power), R7 GND (power), R9 GND (power), R11 GND (power), R12 GND (power), R15 GND (power), R18 GND (power), R21 GND (power), T3 GND (power), T6 GND (power), T7 GND (power), U1 GND (power), U2 GND (power), U3 GND (power), U4 GND (power), U5 GND (power), U6 GND (power), V3 GND (power), V6 GND (power), V9 GND (power), V12 GND (power), V15 GND (power), V18 GND (power), V21 GND (power), W1 GND (power), W2 GND (power), W3 GND (power), W4 GND (power), W5 GND (power), W6 GND (power), Y2 GND (power)
part R pins: J5 NC, J6 NC
part A text: BANK 1
part B text: BANK 2
part C text: BANK 3
part D text: BANK 4
part E text: BANK 7
part F text: BANK 8
part G text: BANK 9
part H text: BANK 10
part I text: BANK 12
part J text: BANK 14

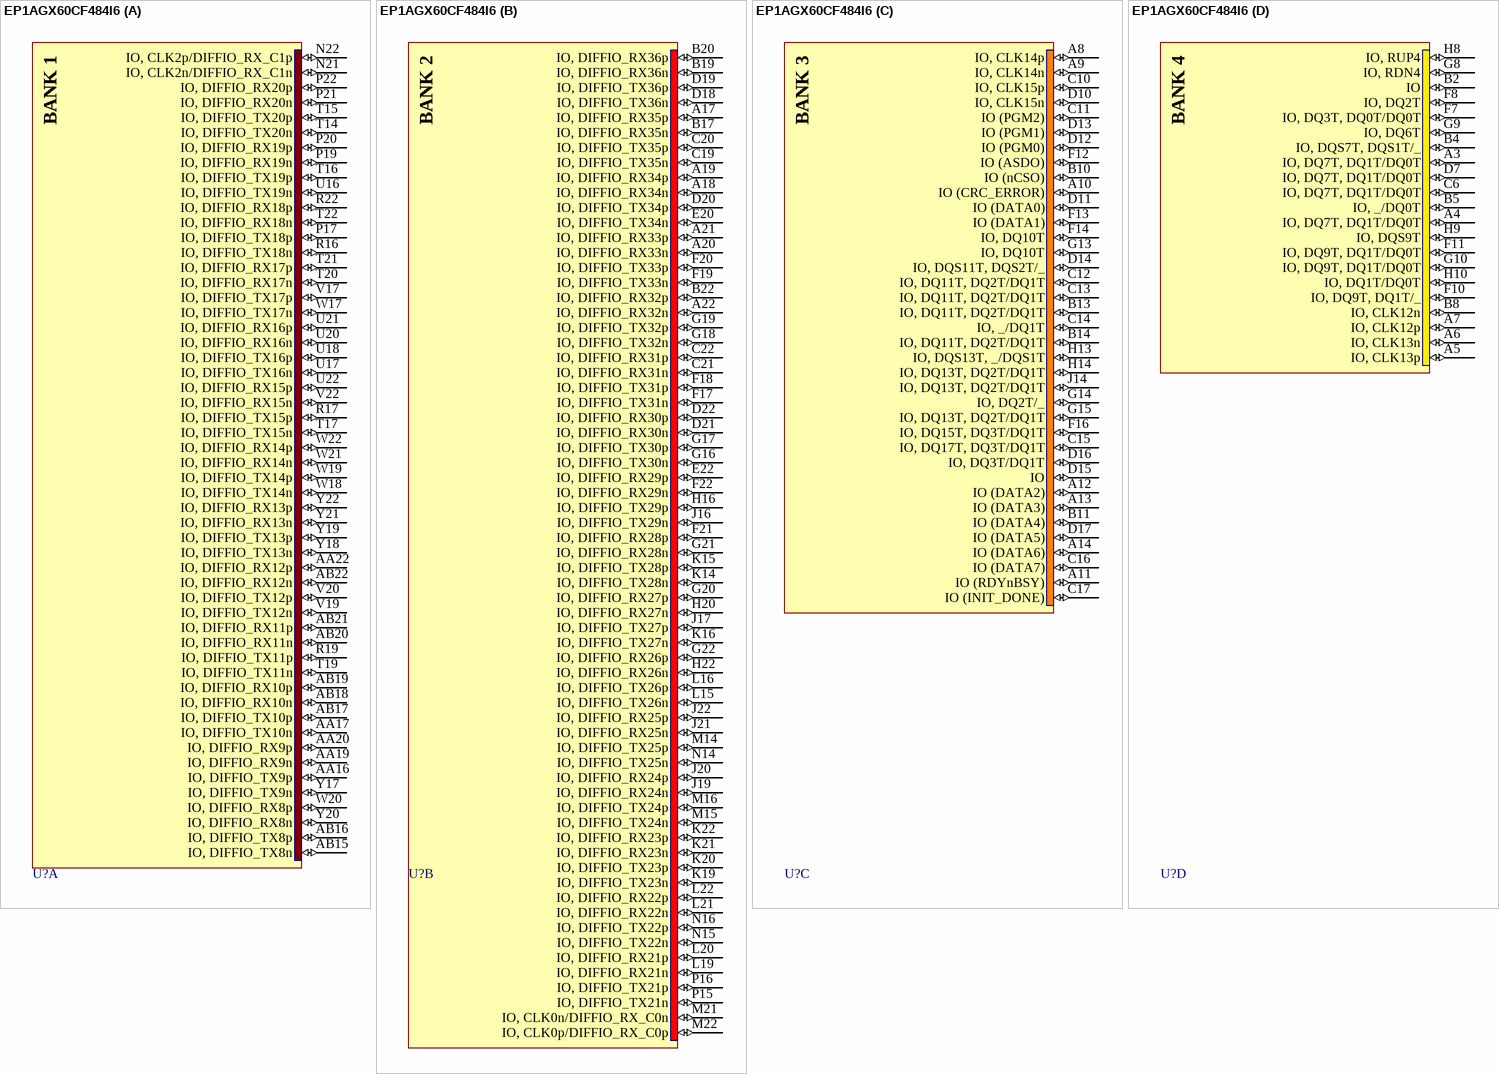
[diagram p93: symbol EP1AGX60CF484I6]

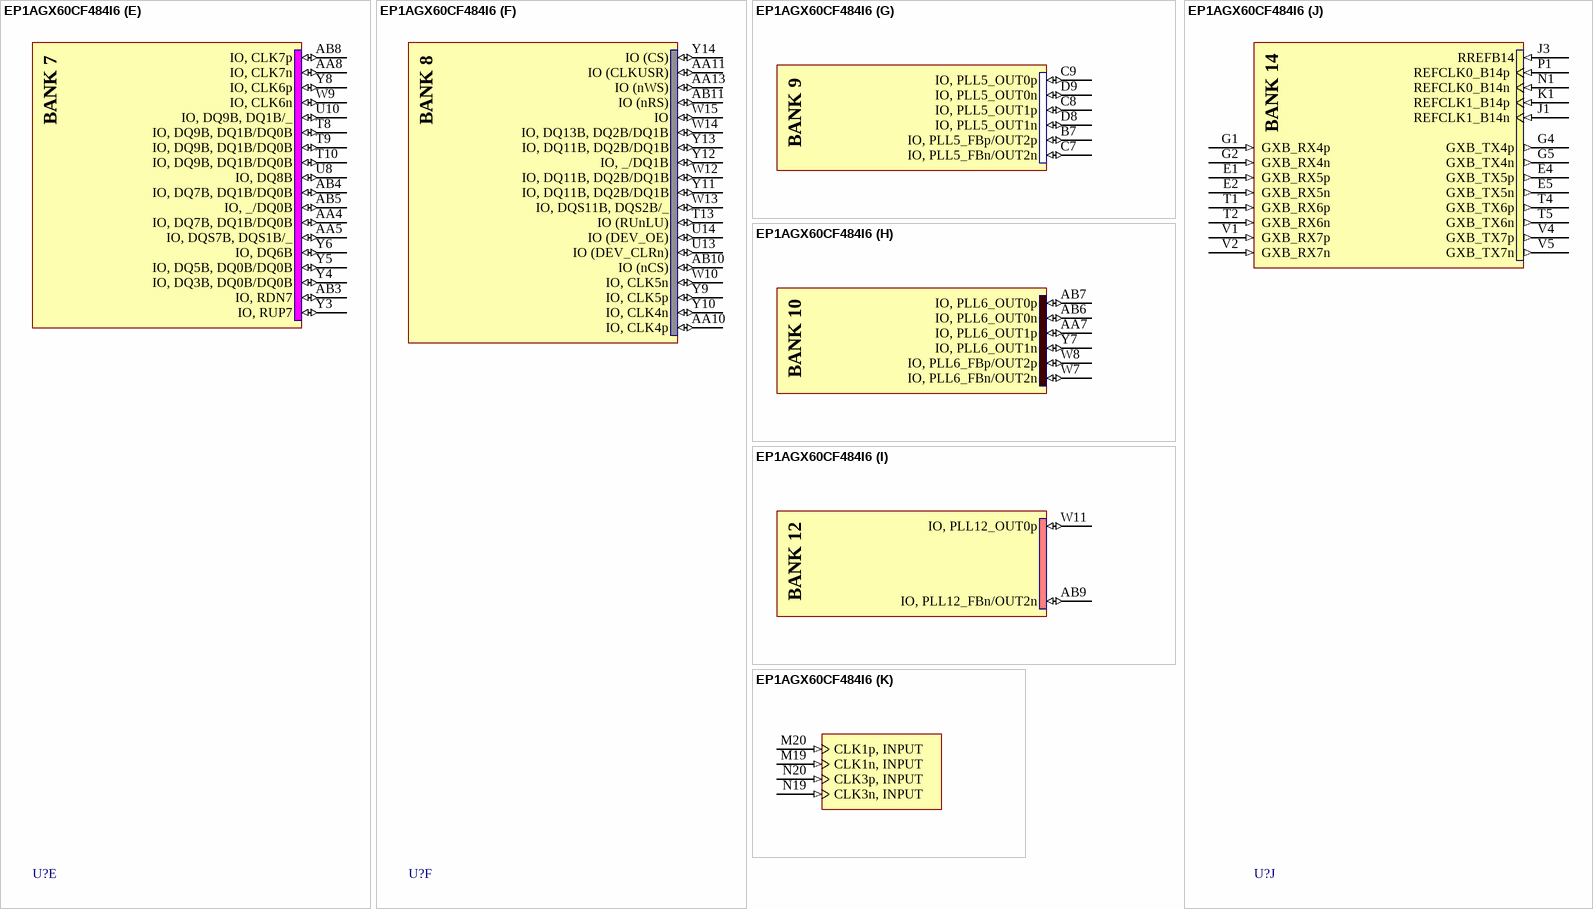
[diagram p94: symbol EP1AGX60CF484I6]

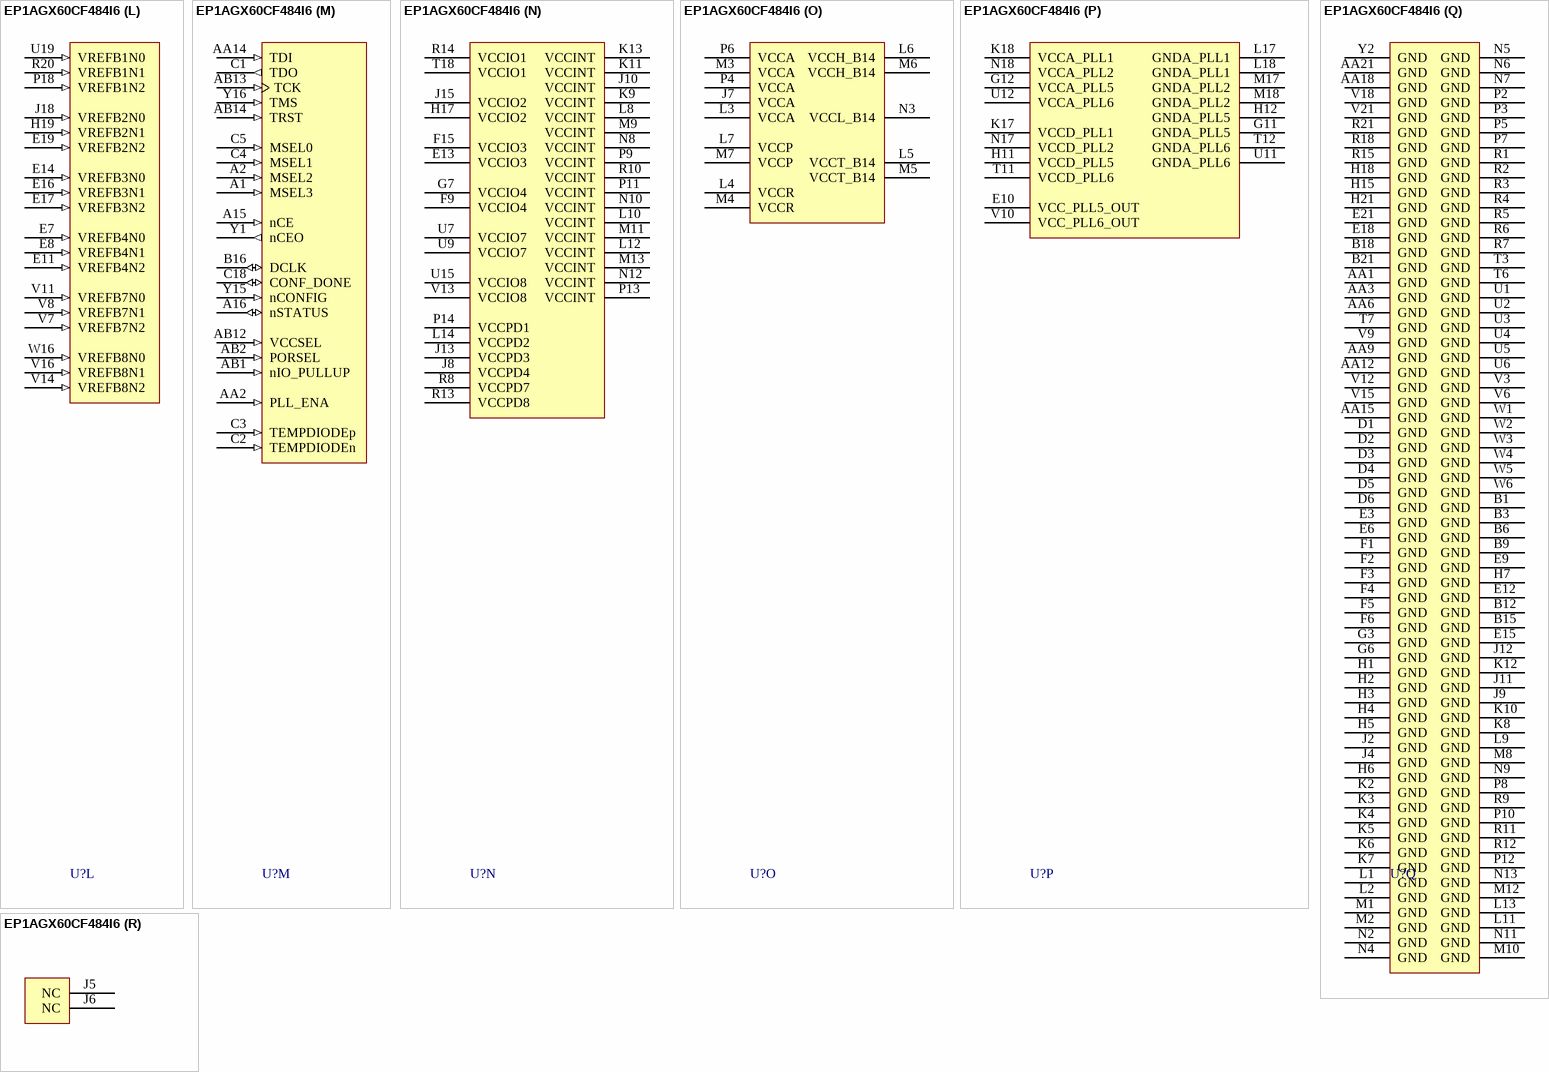
[diagram p95: symbol EP1AGX60CF484I6]